# Altium integrated library Altera Cyclone IV GX update.IntLib: 117 symbols (part 1 of 38)
Pins are listed as number, name and electrical type; pins without a type are passive.

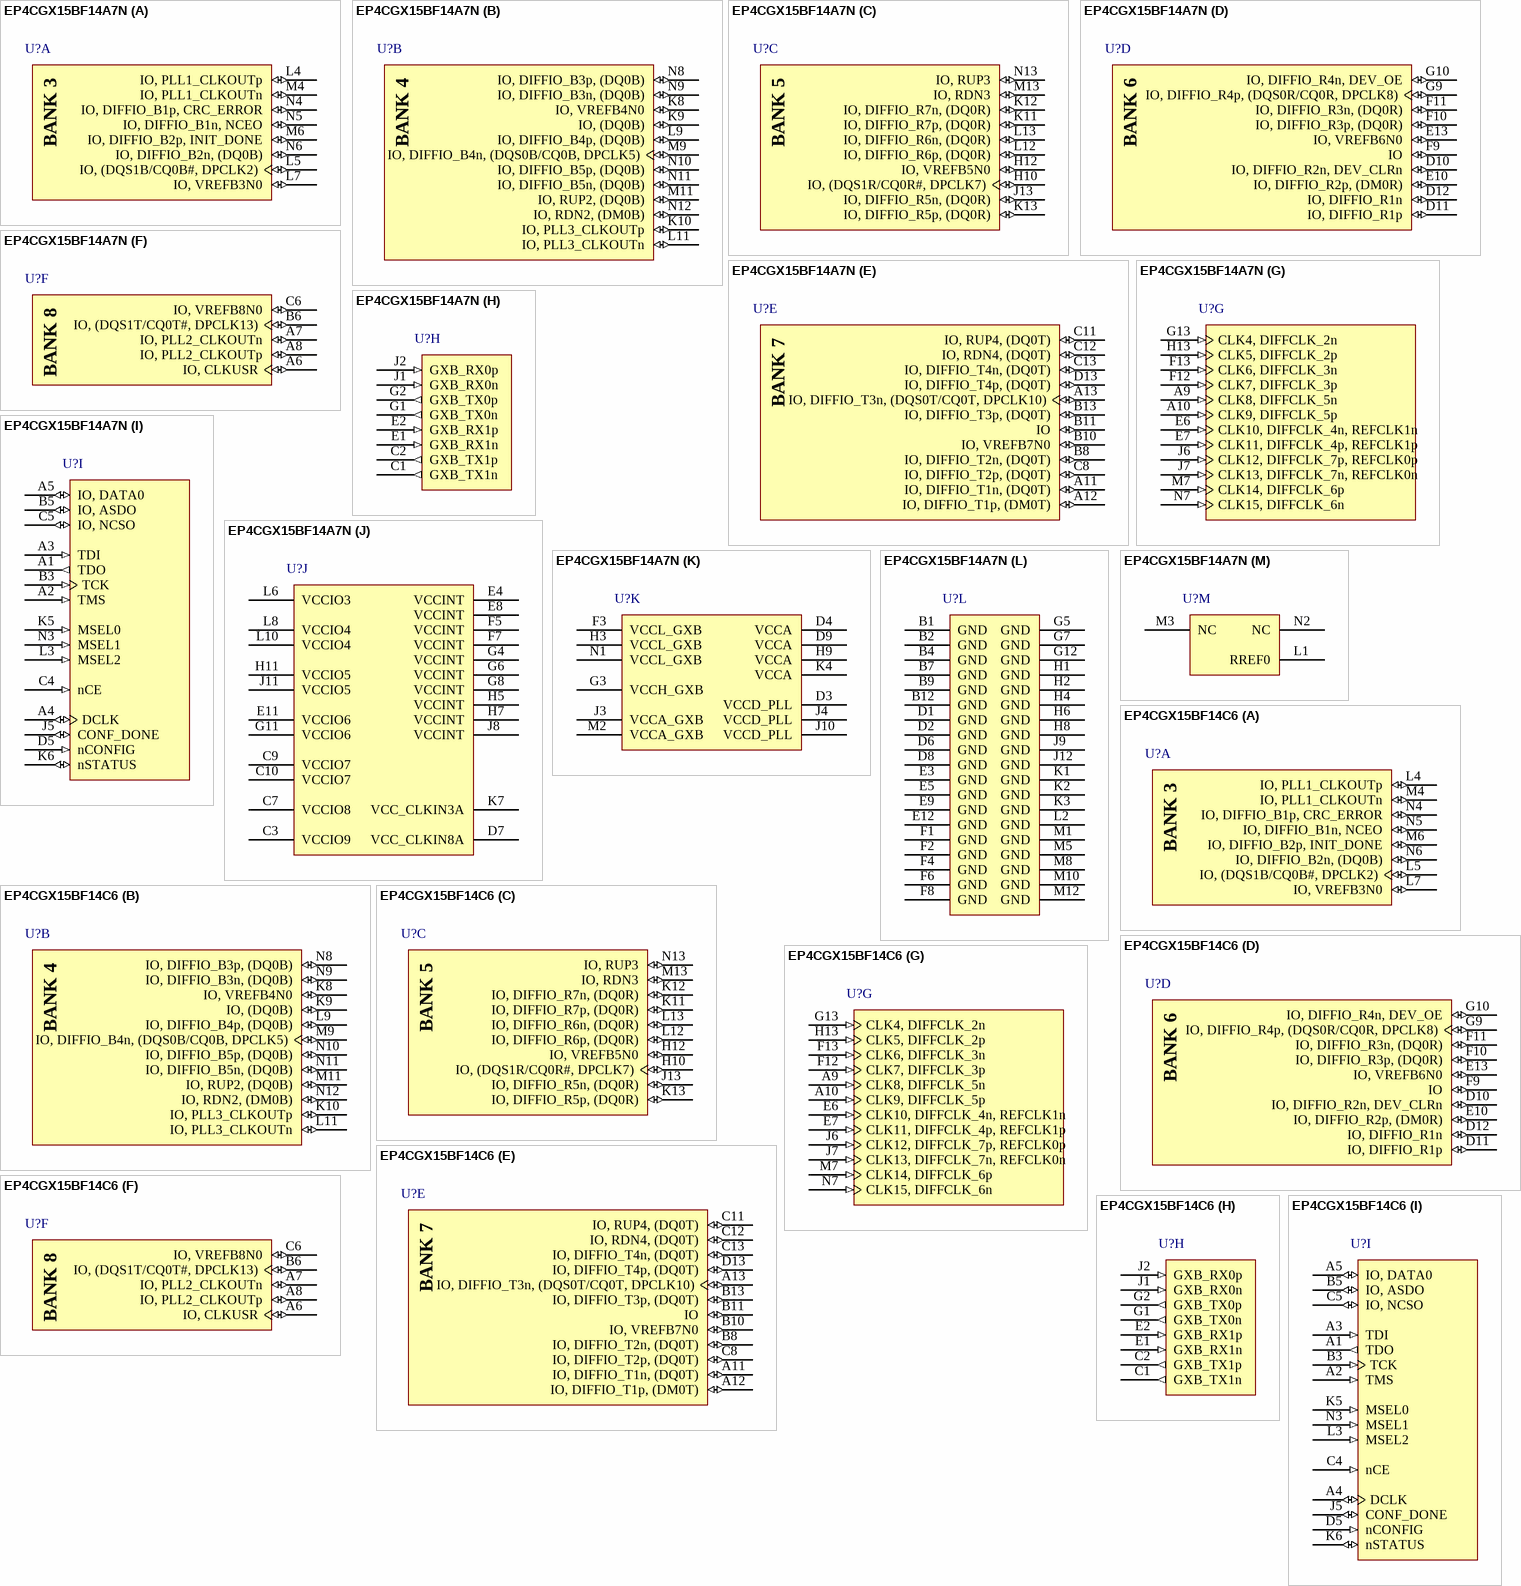
[diagram p0: symbols EP4CGX15BF14A7N to EP4CGX15BF14C6]

## EP4CGX15BF14A7N
designator U?
Cyclone IV Family FPGA, 1.2 V Core, 72 I/O Pins, 3 PLLs, 2 High-Speed Transceivers, 169-Pin FBGA, Speed Grade 7, Automotive Grade, Pb-Free; Manufacturer: Altera; Device Group: EP4CGX15; GPIO: 72; Logic Elements (LE) (K): 14.4; NexusDeviceID: EP4CGX15BF14A7N; Pb-Free: TRUE; Speed Grade: 7; DatasheetVersion: Rev. 1.8; PackageVersion: Rev. 1.0, 06/2011; PackageReference: FBGA169_A-155; PackageDescription: 169-Pin FineLine Ball-Grid Array (FBGA), Body 14 x 14 mm, Pitch 1 mm; Supplier 1: Digi-Key; Supplier Part Number 1: EP4CGX15BF14A7N-ND; Supplier 2: Mouser; Supplier Part Number 2: 989-EP4CGX15BF14A7N; RoHS: RoHS Compliant; Subcategory: Cyclone IV GX; Voltage Supply: 1.2 V Core; Mounting Technology: Surface Mount; Code_JEDEC: MO-192; PartNumber: EP4CGX15BF14A7N; ComponentLink1Description: Manufacturer URL; ComponentLink1URL: http://www.altera.com/; ComponentLink2Description: Datasheet; ComponentLink2URL: http://www.altera.com/literature/hb/cyclone-iv/cyiv-53001.pdf; ComponentLink3Description: Package Specification; ComponentLink3URL: http://www.altera.com/devicepackaging/04R00225-02.pdf; ComponentLink4Description: Device Handbook URL; ComponentLink4URL: http://www.altera.com/literature/hb/cyclone-iv/cyclone4-handbook.pdf; ComponentLink5Description: Device Overview URL; ComponentLink5URL: http://www.altera.com/literature/hb/cyclone-iv/cyiv-51001.pdf; ComponentLink6Description: Device Pin-Out URL; ComponentLink6URL: http://www.altera.com/literature/dp/cyclone-iv/EP4CGX15.xls; ComponentLink7Description: Product URL; ComponentLink7URL: http://www.buyaltera.com/scripts/partsearch.dll?Detail&name=EP4CGX15BF14A7N-ND
footprint ALTR-FBGA169_A-155 (BGA, 169-Balls, Body 14x14mm, Pitch 1mm)
part A pins: L4 IO, PLL1_CLKOUTp (io), L5 IO, (DQS1B/CQ0B#, DPCLK2) (io), L7 IO, VREFB3N0 (io), M4 IO, PLL1_CLKOUTn (io), M6 IO, DIFFIO_B2p, INIT_DONE (io), N4 IO, DIFFIO_B1p, CRC_ERROR (io), N5 IO, DIFFIO_B1n, NCEO (io), N6 IO, DIFFIO_B2n, (DQ0B) (io)
part B pins: K8 IO, VREFB4N0 (io), K9 IO, (DQ0B) (io), K10 IO, PLL3_CLKOUTp (io), L9 IO, DIFFIO_B4p, (DQ0B) (io), L11 IO, PLL3_CLKOUTn (io), M9 IO, DIFFIO_B4n, (DQS0B/CQ0B, DPCLK5) (io), M11 IO, RUP2, (DQ0B) (io), N8 IO, DIFFIO_B3p, (DQ0B) (io), N9 IO, DIFFIO_B3n, (DQ0B) (io), N10 IO, DIFFIO_B5p, (DQ0B) (io), N11 IO, DIFFIO_B5n, (DQ0B) (io), N12 IO, RDN2, (DM0B) (io)
part C pins: H10 IO, (DQS1R/CQ0R#, DPCLK7) (io), H12 IO, VREFB5N0 (io), J13 IO, DIFFIO_R5n, (DQ0R) (io), K11 IO, DIFFIO_R7p, (DQ0R) (io), K12 IO, DIFFIO_R7n, (DQ0R) (io), K13 IO, DIFFIO_R5p, (DQ0R) (io), L12 IO, DIFFIO_R6p, (DQ0R) (io), L13 IO, DIFFIO_R6n, (DQ0R) (io), M13 IO, RDN3 (io), N13 IO, RUP3 (io)
part D pins: D10 IO, DIFFIO_R2n, DEV_CLRn (io), D11 IO, DIFFIO_R1p (io), D12 IO, DIFFIO_R1n (io), E10 IO, DIFFIO_R2p, (DM0R) (io), E13 IO, VREFB6N0 (io), F9 IO (io), F10 IO, DIFFIO_R3p, (DQ0R) (io), F11 IO, DIFFIO_R3n, (DQ0R) (io), G9 IO, DIFFIO_R4p, (DQS0R/CQ0R, DPCLK8) (io), G10 IO, DIFFIO_R4n, DEV_OE (io)
part E pins: A11 IO, DIFFIO_T1n, (DQ0T) (io), A12 IO, DIFFIO_T1p, (DM0T) (io), A13 IO, DIFFIO_T3n, (DQS0T/CQ0T, DPCLK10) (io), B8 IO, DIFFIO_T2n, (DQ0T) (io), B10 IO, VREFB7N0 (io), B11 IO (io), B13 IO, DIFFIO_T3p, (DQ0T) (io), C8 IO, DIFFIO_T2p, (DQ0T) (io), C11 IO, RUP4, (DQ0T) (io), C12 IO, RDN4, (DQ0T) (io), C13 IO, DIFFIO_T4n, (DQ0T) (io), D13 IO, DIFFIO_T4p, (DQ0T) (io)
part F pins: A6 IO, CLKUSR (io), A7 IO, PLL2_CLKOUTn (io), A8 IO, PLL2_CLKOUTp (io), B6 IO, (DQS1T/CQ0T#, DPCLK13) (io), C6 IO, VREFB8N0 (io)
part G pins: A9 CLK8, DIFFCLK_5n (in), A10 CLK9, DIFFCLK_5p (in), E6 CLK10, DIFFCLK_4n, REFCLK1n (in), E7 CLK11, DIFFCLK_4p, REFCLK1p (in), F12 CLK7, DIFFCLK_3p (in), F13 CLK6, DIFFCLK_3n (in), G13 CLK4, DIFFCLK_2n (in), H13 CLK5, DIFFCLK_2p (in), J6 CLK12, DIFFCLK_7p, REFCLK0p (in), J7 CLK13, DIFFCLK_7n, REFCLK0n (in), M7 CLK14, DIFFCLK_6p (in), N7 CLK15, DIFFCLK_6n (in)
part H pins: C1 GXB_TX1n (out), C2 GXB_TX1p (out), E1 GXB_RX1n (in), E2 GXB_RX1p (in), G1 GXB_TX0n (out), G2 GXB_TX0p (out), J1 GXB_RX0n (in), J2 GXB_RX0p (in)
part I pins: A1 TDO (out), A2 TMS (in), A3 TDI (in), A4 DCLK (io), A5 IO, DATA0 (io), B3 TCK (in), B5 IO, ASDO (io), C4 nCE (in), C5 IO, NCSO (io), D5 nCONFIG (in), J5 CONF_DONE (io), K5 MSEL0 (in), K6 nSTATUS (io), L3 MSEL2 (in), N3 MSEL1 (in)
part J pins: C3 VCCIO9 (power), C7 VCCIO8 (power), C9 VCCIO7 (power), C10 VCCIO7 (power), D7 VCC_CLKIN8A (power), E4 VCCINT (power), E8 VCCINT (power), E11 VCCIO6 (power), F5 VCCINT (power), F7 VCCINT (power), G4 VCCINT (power), G6 VCCINT (power), G8 VCCINT (power), G11 VCCIO6 (power), H5 VCCINT (power), H7 VCCINT (power), H11 VCCIO5 (power), J8 VCCINT (power), J11 VCCIO5 (power), K7 VCC_CLKIN3A (power), L6 VCCIO3 (power), L8 VCCIO4 (power), L10 VCCIO4 (power)
part K pins: D3 VCCD_PLL (power), D4 VCCA (power), D9 VCCA (power), F3 VCCL_GXB (power), G3 VCCH_GXB (power), H3 VCCL_GXB (power), H9 VCCA (power), J3 VCCA_GXB (power), J4 VCCD_PLL (power), J10 VCCD_PLL (power), K4 VCCA (power), M2 VCCA_GXB (power), N1 VCCL_GXB (power)
part L pins: B1 GND (power), B2 GND (power), B4 GND (power), B7 GND (power), B9 GND (power), B12 GND (power), D1 GND (power), D2 GND (power), D6 GND (power), D8 GND (power), E3 GND (power), E5 GND (power), E9 GND (power), E12 GND (power), F1 GND (power), F2 GND (power), F4 GND (power), F6 GND (power), F8 GND (power), G5 GND (power), G7 GND (power), G12 GND (power), H1 GND (power), H2 GND (power), H4 GND (power), H6 GND (power), H8 GND (power), J9 GND (power), J12 GND (power), K1 GND (power), K2 GND (power), K3 GND (power), L2 GND (power), M1 GND (power), M5 GND (power), M8 GND (power), M10 GND (power), M12 GND (power)
part M pins: L1 RREF0, M3 NC, N2 NC
part A text: BANK 3
part B text: BANK 4
part C text: BANK 5
part D text: BANK 6
part E text: BANK 7
part F text: BANK 8

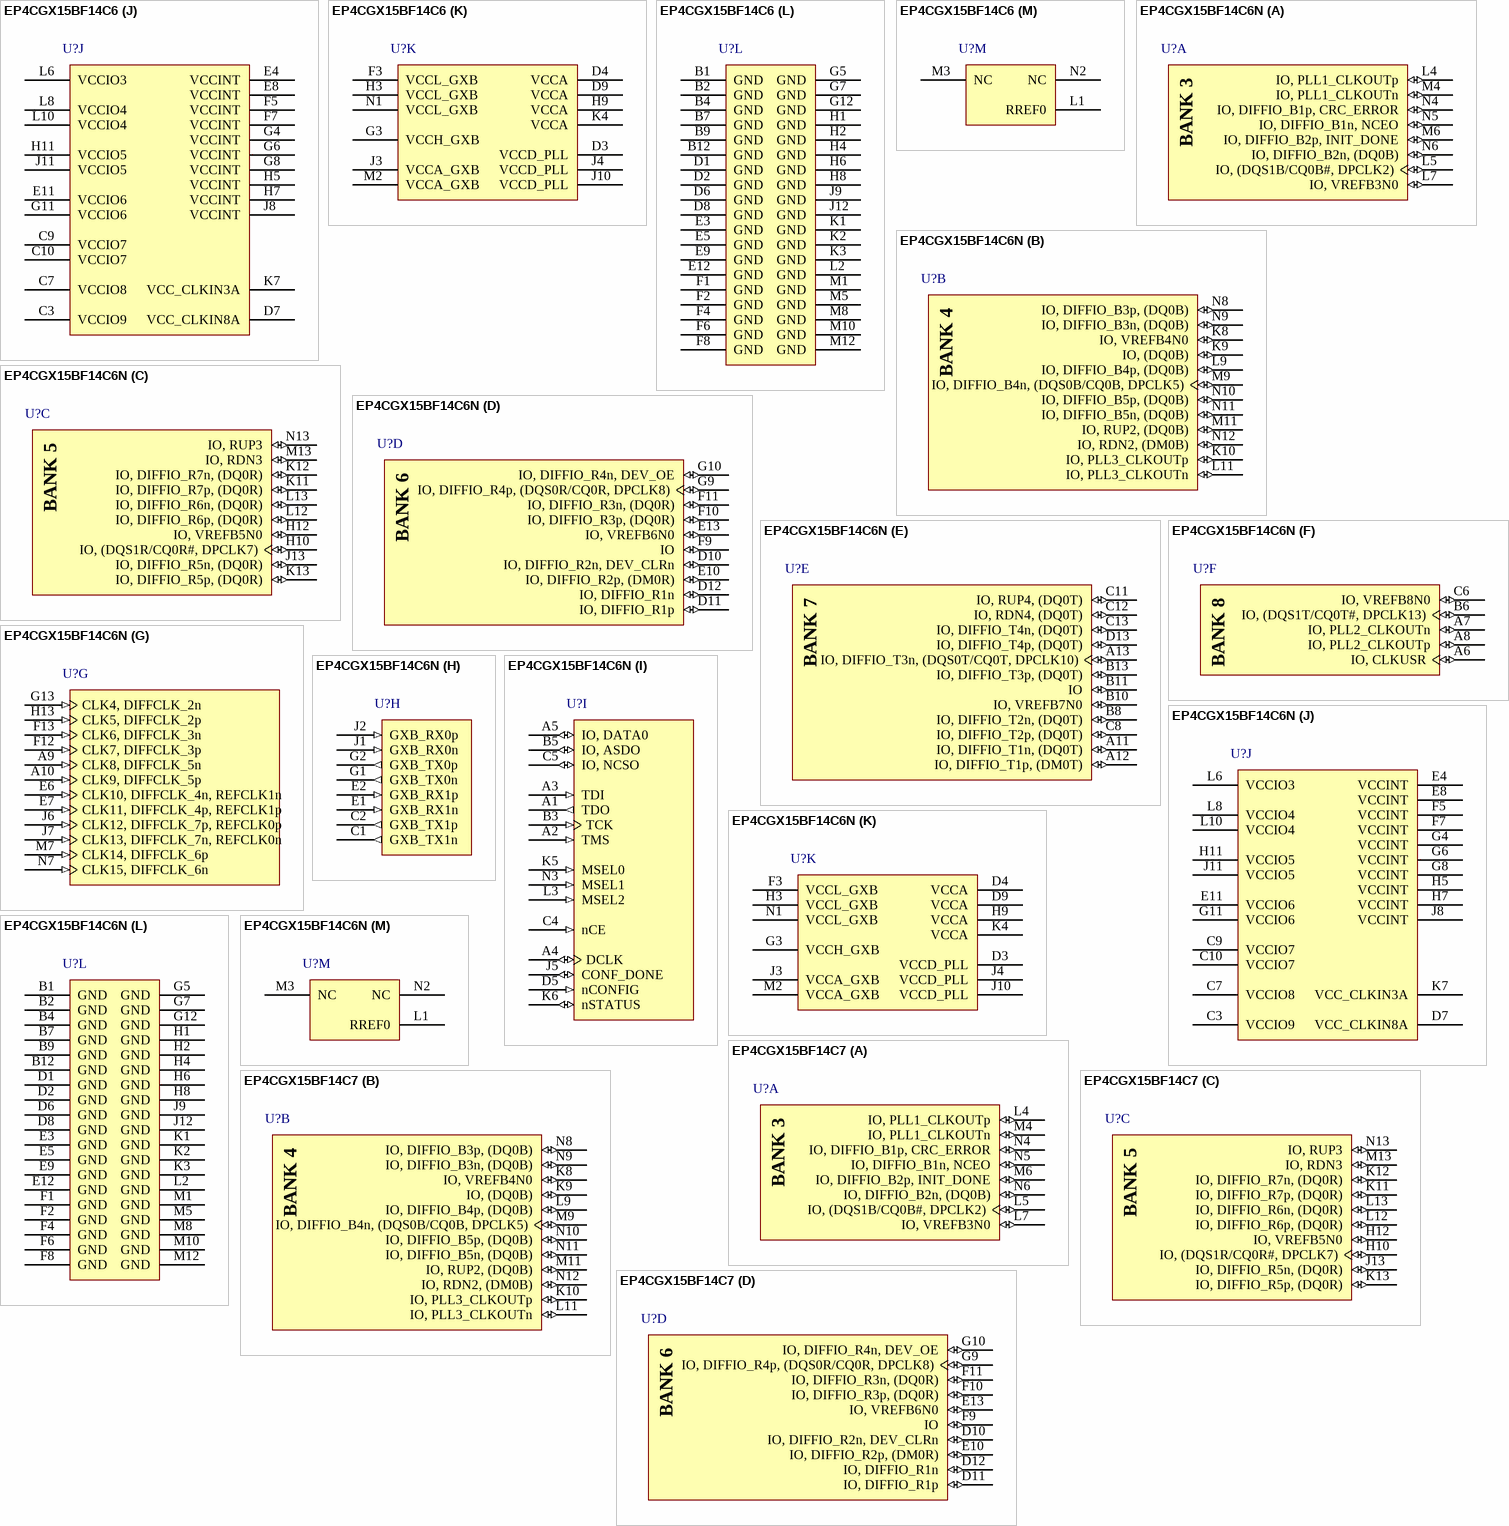
[diagram p1: symbols EP4CGX15BF14C6 to EP4CGX15BF14C7]

## EP4CGX15BF14C6
designator U?
Cyclone IV Family FPGA, 1.2 V Core, 72 I/O Pins, 3 PLLs, 2 High-Speed Transceivers, 169-Pin FBGA, Speed Grade 6, Commercial Grade; Manufacturer: Altera; Device Group: EP4CGX15; GPIO: 72; Logic Elements (LE) (K): 14.4; NexusDeviceID: EP4CGX15BF14C6; Speed Grade: 6; DatasheetVersion: Rev. 1.8; PackageVersion: Rev. 1.0, 06/2011; PackageReference: FBGA169_A-155; PackageDescription: 169-Pin FineLine Ball-Grid Array (FBGA), Body 14 x 14 mm, Pitch 1 mm; Supplier 1: Digi-Key; Supplier Part Number 1: EP4CGX15BF14C6-ND; Supplier 2: Mouser; Supplier Part Number 2: 989-EP4CGX15BF14C6; Subcategory: Cyclone IV GX; Voltage Supply: 1.2 V Core; Mounting Technology: Surface Mount; Code_JEDEC: MO-192; PartNumber: EP4CGX15BF14C6; ComponentLink1Description: Manufacturer URL; ComponentLink1URL: http://www.altera.com/; ComponentLink2Description: Datasheet; ComponentLink2URL: http://www.altera.com/literature/hb/cyclone-iv/cyiv-53001.pdf; ComponentLink3Description: Package Specification; ComponentLink3URL: http://www.altera.com/devicepackaging/04R00225-02.pdf; ComponentLink4Description: Device Handbook URL; ComponentLink4URL: http://www.altera.com/literature/hb/cyclone-iv/cyclone4-handbook.pdf; ComponentLink5Description: Device Overview URL; ComponentLink5URL: http://www.altera.com/literature/hb/cyclone-iv/cyiv-51001.pdf; ComponentLink6Description: Device Pin-Out URL; ComponentLink6URL: http://www.altera.com/literature/dp/cyclone-iv/EP4CGX15.xls; ComponentLink7Description: Product URL; ComponentLink7URL: http://www.buyaltera.com/scripts/partsearch.dll?Detail&name=EP4CGX15BF14C6N-ND
footprint ALTR-FBGA169_A-155 (BGA, 169-Balls, Body 14x14mm, Pitch 1mm)
part A pins: L4 IO, PLL1_CLKOUTp (io), L5 IO, (DQS1B/CQ0B#, DPCLK2) (io), L7 IO, VREFB3N0 (io), M4 IO, PLL1_CLKOUTn (io), M6 IO, DIFFIO_B2p, INIT_DONE (io), N4 IO, DIFFIO_B1p, CRC_ERROR (io), N5 IO, DIFFIO_B1n, NCEO (io), N6 IO, DIFFIO_B2n, (DQ0B) (io)
part B pins: K8 IO, VREFB4N0 (io), K9 IO, (DQ0B) (io), K10 IO, PLL3_CLKOUTp (io), L9 IO, DIFFIO_B4p, (DQ0B) (io), L11 IO, PLL3_CLKOUTn (io), M9 IO, DIFFIO_B4n, (DQS0B/CQ0B, DPCLK5) (io), M11 IO, RUP2, (DQ0B) (io), N8 IO, DIFFIO_B3p, (DQ0B) (io), N9 IO, DIFFIO_B3n, (DQ0B) (io), N10 IO, DIFFIO_B5p, (DQ0B) (io), N11 IO, DIFFIO_B5n, (DQ0B) (io), N12 IO, RDN2, (DM0B) (io)
part C pins: H10 IO, (DQS1R/CQ0R#, DPCLK7) (io), H12 IO, VREFB5N0 (io), J13 IO, DIFFIO_R5n, (DQ0R) (io), K11 IO, DIFFIO_R7p, (DQ0R) (io), K12 IO, DIFFIO_R7n, (DQ0R) (io), K13 IO, DIFFIO_R5p, (DQ0R) (io), L12 IO, DIFFIO_R6p, (DQ0R) (io), L13 IO, DIFFIO_R6n, (DQ0R) (io), M13 IO, RDN3 (io), N13 IO, RUP3 (io)
part D pins: D10 IO, DIFFIO_R2n, DEV_CLRn (io), D11 IO, DIFFIO_R1p (io), D12 IO, DIFFIO_R1n (io), E10 IO, DIFFIO_R2p, (DM0R) (io), E13 IO, VREFB6N0 (io), F9 IO (io), F10 IO, DIFFIO_R3p, (DQ0R) (io), F11 IO, DIFFIO_R3n, (DQ0R) (io), G9 IO, DIFFIO_R4p, (DQS0R/CQ0R, DPCLK8) (io), G10 IO, DIFFIO_R4n, DEV_OE (io)
part E pins: A11 IO, DIFFIO_T1n, (DQ0T) (io), A12 IO, DIFFIO_T1p, (DM0T) (io), A13 IO, DIFFIO_T3n, (DQS0T/CQ0T, DPCLK10) (io), B8 IO, DIFFIO_T2n, (DQ0T) (io), B10 IO, VREFB7N0 (io), B11 IO (io), B13 IO, DIFFIO_T3p, (DQ0T) (io), C8 IO, DIFFIO_T2p, (DQ0T) (io), C11 IO, RUP4, (DQ0T) (io), C12 IO, RDN4, (DQ0T) (io), C13 IO, DIFFIO_T4n, (DQ0T) (io), D13 IO, DIFFIO_T4p, (DQ0T) (io)
part F pins: A6 IO, CLKUSR (io), A7 IO, PLL2_CLKOUTn (io), A8 IO, PLL2_CLKOUTp (io), B6 IO, (DQS1T/CQ0T#, DPCLK13) (io), C6 IO, VREFB8N0 (io)
part G pins: A9 CLK8, DIFFCLK_5n (in), A10 CLK9, DIFFCLK_5p (in), E6 CLK10, DIFFCLK_4n, REFCLK1n (in), E7 CLK11, DIFFCLK_4p, REFCLK1p (in), F12 CLK7, DIFFCLK_3p (in), F13 CLK6, DIFFCLK_3n (in), G13 CLK4, DIFFCLK_2n (in), H13 CLK5, DIFFCLK_2p (in), J6 CLK12, DIFFCLK_7p, REFCLK0p (in), J7 CLK13, DIFFCLK_7n, REFCLK0n (in), M7 CLK14, DIFFCLK_6p (in), N7 CLK15, DIFFCLK_6n (in)
part H pins: C1 GXB_TX1n (out), C2 GXB_TX1p (out), E1 GXB_RX1n (in), E2 GXB_RX1p (in), G1 GXB_TX0n (out), G2 GXB_TX0p (out), J1 GXB_RX0n (in), J2 GXB_RX0p (in)
part I pins: A1 TDO (out), A2 TMS (in), A3 TDI (in), A4 DCLK (io), A5 IO, DATA0 (io), B3 TCK (in), B5 IO, ASDO (io), C4 nCE (in), C5 IO, NCSO (io), D5 nCONFIG (in), J5 CONF_DONE (io), K5 MSEL0 (in), K6 nSTATUS (io), L3 MSEL2 (in), N3 MSEL1 (in)
part J pins: C3 VCCIO9 (power), C7 VCCIO8 (power), C9 VCCIO7 (power), C10 VCCIO7 (power), D7 VCC_CLKIN8A (power), E4 VCCINT (power), E8 VCCINT (power), E11 VCCIO6 (power), F5 VCCINT (power), F7 VCCINT (power), G4 VCCINT (power), G6 VCCINT (power), G8 VCCINT (power), G11 VCCIO6 (power), H5 VCCINT (power), H7 VCCINT (power), H11 VCCIO5 (power), J8 VCCINT (power), J11 VCCIO5 (power), K7 VCC_CLKIN3A (power), L6 VCCIO3 (power), L8 VCCIO4 (power), L10 VCCIO4 (power)
part K pins: D3 VCCD_PLL (power), D4 VCCA (power), D9 VCCA (power), F3 VCCL_GXB (power), G3 VCCH_GXB (power), H3 VCCL_GXB (power), H9 VCCA (power), J3 VCCA_GXB (power), J4 VCCD_PLL (power), J10 VCCD_PLL (power), K4 VCCA (power), M2 VCCA_GXB (power), N1 VCCL_GXB (power)
part L pins: B1 GND (power), B2 GND (power), B4 GND (power), B7 GND (power), B9 GND (power), B12 GND (power), D1 GND (power), D2 GND (power), D6 GND (power), D8 GND (power), E3 GND (power), E5 GND (power), E9 GND (power), E12 GND (power), F1 GND (power), F2 GND (power), F4 GND (power), F6 GND (power), F8 GND (power), G5 GND (power), G7 GND (power), G12 GND (power), H1 GND (power), H2 GND (power), H4 GND (power), H6 GND (power), H8 GND (power), J9 GND (power), J12 GND (power), K1 GND (power), K2 GND (power), K3 GND (power), L2 GND (power), M1 GND (power), M5 GND (power), M8 GND (power), M10 GND (power), M12 GND (power)
part M pins: L1 RREF0, M3 NC, N2 NC
part A text: BANK 3
part B text: BANK 4
part C text: BANK 5
part D text: BANK 6
part E text: BANK 7
part F text: BANK 8

## EP4CGX15BF14C6N
designator U?
Cyclone IV Family FPGA, 1.2 V Core, 72 I/O Pins, 3 PLLs, 2 High-Speed Transceivers, 169-Pin FBGA, Speed Grade 6, Commercial Grade, Pb-Free; Manufacturer: Altera; Device Group: EP4CGX15; GPIO: 72; Logic Elements (LE) (K): 14.4; NexusDeviceID: EP4CGX15BF14C6N; Pb-Free: TRUE; Speed Grade: 6; DatasheetVersion: Rev. 1.8; PackageVersion: Rev. 1.0, 06/2011; PackageReference: FBGA169_A-155; PackageDescription: 169-Pin FineLine Ball-Grid Array (FBGA), Body 14 x 14 mm, Pitch 1 mm; Supplier 1: Digi-Key; Supplier Part Number 1: EP4CGX15BF14C6N-ND; Supplier 2: Farnell; Supplier Part Number 2: 2100859; Supplier 3: Mouser; Supplier Part Number 3: 989-EP4CGX15BF14C6N; RoHS: RoHS Compliant; Subcategory: Cyclone IV GX; Voltage Supply: 1.2 V Core; Mounting Technology: Surface Mount; Code_JEDEC: MO-192; PartNumber: EP4CGX15BF14C6N; ComponentLink1Description: Manufacturer URL; ComponentLink1URL: http://www.altera.com/; ComponentLink2Description: Datasheet; ComponentLink2URL: http://www.altera.com/literature/hb/cyclone-iv/cyiv-53001.pdf; ComponentLink3Description: Package Specification; ComponentLink3URL: http://www.altera.com/devicepackaging/04R00225-02.pdf; ComponentLink4Description: Device Handbook URL; ComponentLink4URL: http://www.altera.com/literature/hb/cyclone-iv/cyclone4-handbook.pdf; ComponentLink5Description: Device Overview URL; ComponentLink5URL: http://www.altera.com/literature/hb/cyclone-iv/cyiv-51001.pdf; ComponentLink6Description: Device Pin-Out URL; ComponentLink6URL: http://www.altera.com/literature/dp/cyclone-iv/EP4CGX15.xls; ComponentLink7Description: Product URL; ComponentLink7URL: http://www.buyaltera.com/scripts/partsearch.dll?Detail&name=EP4CGX15BF14C6N-ND
footprint ALTR-FBGA169_A-155 (BGA, 169-Balls, Body 14x14mm, Pitch 1mm)
part A pins: L4 IO, PLL1_CLKOUTp (io), L5 IO, (DQS1B/CQ0B#, DPCLK2) (io), L7 IO, VREFB3N0 (io), M4 IO, PLL1_CLKOUTn (io), M6 IO, DIFFIO_B2p, INIT_DONE (io), N4 IO, DIFFIO_B1p, CRC_ERROR (io), N5 IO, DIFFIO_B1n, NCEO (io), N6 IO, DIFFIO_B2n, (DQ0B) (io)
part B pins: K8 IO, VREFB4N0 (io), K9 IO, (DQ0B) (io), K10 IO, PLL3_CLKOUTp (io), L9 IO, DIFFIO_B4p, (DQ0B) (io), L11 IO, PLL3_CLKOUTn (io), M9 IO, DIFFIO_B4n, (DQS0B/CQ0B, DPCLK5) (io), M11 IO, RUP2, (DQ0B) (io), N8 IO, DIFFIO_B3p, (DQ0B) (io), N9 IO, DIFFIO_B3n, (DQ0B) (io), N10 IO, DIFFIO_B5p, (DQ0B) (io), N11 IO, DIFFIO_B5n, (DQ0B) (io), N12 IO, RDN2, (DM0B) (io)
part C pins: H10 IO, (DQS1R/CQ0R#, DPCLK7) (io), H12 IO, VREFB5N0 (io), J13 IO, DIFFIO_R5n, (DQ0R) (io), K11 IO, DIFFIO_R7p, (DQ0R) (io), K12 IO, DIFFIO_R7n, (DQ0R) (io), K13 IO, DIFFIO_R5p, (DQ0R) (io), L12 IO, DIFFIO_R6p, (DQ0R) (io), L13 IO, DIFFIO_R6n, (DQ0R) (io), M13 IO, RDN3 (io), N13 IO, RUP3 (io)
part D pins: D10 IO, DIFFIO_R2n, DEV_CLRn (io), D11 IO, DIFFIO_R1p (io), D12 IO, DIFFIO_R1n (io), E10 IO, DIFFIO_R2p, (DM0R) (io), E13 IO, VREFB6N0 (io), F9 IO (io), F10 IO, DIFFIO_R3p, (DQ0R) (io), F11 IO, DIFFIO_R3n, (DQ0R) (io), G9 IO, DIFFIO_R4p, (DQS0R/CQ0R, DPCLK8) (io), G10 IO, DIFFIO_R4n, DEV_OE (io)
part E pins: A11 IO, DIFFIO_T1n, (DQ0T) (io), A12 IO, DIFFIO_T1p, (DM0T) (io), A13 IO, DIFFIO_T3n, (DQS0T/CQ0T, DPCLK10) (io), B8 IO, DIFFIO_T2n, (DQ0T) (io), B10 IO, VREFB7N0 (io), B11 IO (io), B13 IO, DIFFIO_T3p, (DQ0T) (io), C8 IO, DIFFIO_T2p, (DQ0T) (io), C11 IO, RUP4, (DQ0T) (io), C12 IO, RDN4, (DQ0T) (io), C13 IO, DIFFIO_T4n, (DQ0T) (io), D13 IO, DIFFIO_T4p, (DQ0T) (io)
part F pins: A6 IO, CLKUSR (io), A7 IO, PLL2_CLKOUTn (io), A8 IO, PLL2_CLKOUTp (io), B6 IO, (DQS1T/CQ0T#, DPCLK13) (io), C6 IO, VREFB8N0 (io)
part G pins: A9 CLK8, DIFFCLK_5n (in), A10 CLK9, DIFFCLK_5p (in), E6 CLK10, DIFFCLK_4n, REFCLK1n (in), E7 CLK11, DIFFCLK_4p, REFCLK1p (in), F12 CLK7, DIFFCLK_3p (in), F13 CLK6, DIFFCLK_3n (in), G13 CLK4, DIFFCLK_2n (in), H13 CLK5, DIFFCLK_2p (in), J6 CLK12, DIFFCLK_7p, REFCLK0p (in), J7 CLK13, DIFFCLK_7n, REFCLK0n (in), M7 CLK14, DIFFCLK_6p (in), N7 CLK15, DIFFCLK_6n (in)
part H pins: C1 GXB_TX1n (out), C2 GXB_TX1p (out), E1 GXB_RX1n (in), E2 GXB_RX1p (in), G1 GXB_TX0n (out), G2 GXB_TX0p (out), J1 GXB_RX0n (in), J2 GXB_RX0p (in)
part I pins: A1 TDO (out), A2 TMS (in), A3 TDI (in), A4 DCLK (io), A5 IO, DATA0 (io), B3 TCK (in), B5 IO, ASDO (io), C4 nCE (in), C5 IO, NCSO (io), D5 nCONFIG (in), J5 CONF_DONE (io), K5 MSEL0 (in), K6 nSTATUS (io), L3 MSEL2 (in), N3 MSEL1 (in)
part J pins: C3 VCCIO9 (power), C7 VCCIO8 (power), C9 VCCIO7 (power), C10 VCCIO7 (power), D7 VCC_CLKIN8A (power), E4 VCCINT (power), E8 VCCINT (power), E11 VCCIO6 (power), F5 VCCINT (power), F7 VCCINT (power), G4 VCCINT (power), G6 VCCINT (power), G8 VCCINT (power), G11 VCCIO6 (power), H5 VCCINT (power), H7 VCCINT (power), H11 VCCIO5 (power), J8 VCCINT (power), J11 VCCIO5 (power), K7 VCC_CLKIN3A (power), L6 VCCIO3 (power), L8 VCCIO4 (power), L10 VCCIO4 (power)
part K pins: D3 VCCD_PLL (power), D4 VCCA (power), D9 VCCA (power), F3 VCCL_GXB (power), G3 VCCH_GXB (power), H3 VCCL_GXB (power), H9 VCCA (power), J3 VCCA_GXB (power), J4 VCCD_PLL (power), J10 VCCD_PLL (power), K4 VCCA (power), M2 VCCA_GXB (power), N1 VCCL_GXB (power)
part L pins: B1 GND (power), B2 GND (power), B4 GND (power), B7 GND (power), B9 GND (power), B12 GND (power), D1 GND (power), D2 GND (power), D6 GND (power), D8 GND (power), E3 GND (power), E5 GND (power), E9 GND (power), E12 GND (power), F1 GND (power), F2 GND (power), F4 GND (power), F6 GND (power), F8 GND (power), G5 GND (power), G7 GND (power), G12 GND (power), H1 GND (power), H2 GND (power), H4 GND (power), H6 GND (power), H8 GND (power), J9 GND (power), J12 GND (power), K1 GND (power), K2 GND (power), K3 GND (power), L2 GND (power), M1 GND (power), M5 GND (power), M8 GND (power), M10 GND (power), M12 GND (power)
part M pins: L1 RREF0, M3 NC, N2 NC
part A text: BANK 3
part B text: BANK 4
part C text: BANK 5
part D text: BANK 6
part E text: BANK 7
part F text: BANK 8

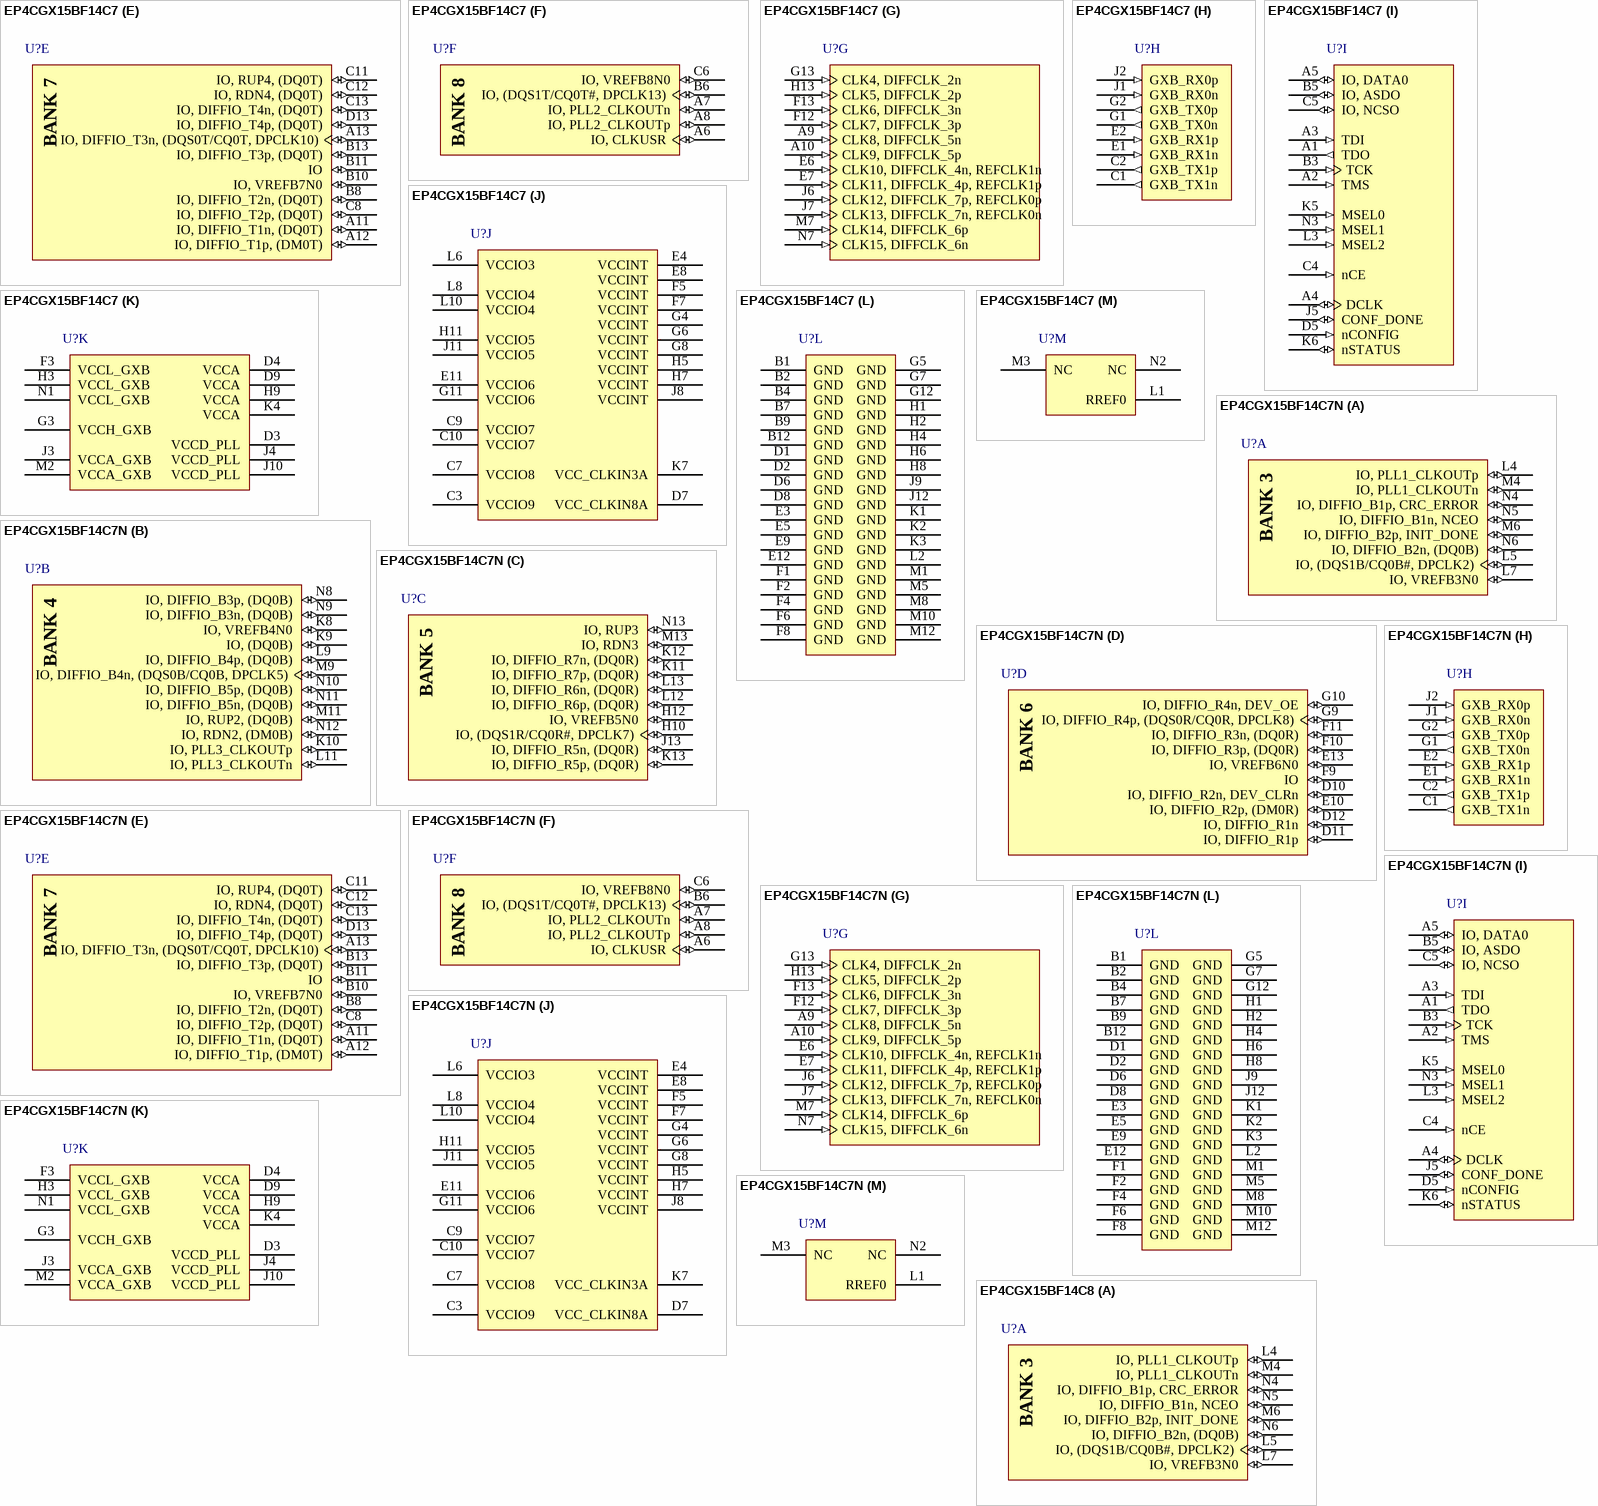
[diagram p2: symbols EP4CGX15BF14C7 to EP4CGX15BF14C8]

## EP4CGX15BF14C7
designator U?
Cyclone IV Family FPGA, 1.2 V Core, 72 I/O Pins, 3 PLLs, 2 High-Speed Transceivers, 169-Pin FBGA, Speed Grade 7, Commercial Grade; Manufacturer: Altera; Device Group: EP4CGX15; GPIO: 72; Logic Elements (LE) (K): 14.4; NexusDeviceID: EP4CGX15BF14C7; Speed Grade: 7; DatasheetVersion: Rev. 1.8; PackageVersion: Rev. 1.0, 06/2011; PackageReference: FBGA169_A-155; PackageDescription: 169-Pin FineLine Ball-Grid Array (FBGA), Body 14 x 14 mm, Pitch 1 mm; Supplier 1: Digi-Key; Supplier Part Number 1: EP4CGX15BF14C7-ND; Supplier 2: Mouser; Supplier Part Number 2: 989-EP4CGX15BF14C7; Subcategory: Cyclone IV GX; Voltage Supply: 1.2 V Core; Mounting Technology: Surface Mount; Code_JEDEC: MO-192; PartNumber: EP4CGX15BF14C7; ComponentLink1Description: Manufacturer URL; ComponentLink1URL: http://www.altera.com/; ComponentLink2Description: Datasheet; ComponentLink2URL: http://www.altera.com/literature/hb/cyclone-iv/cyiv-53001.pdf; ComponentLink3Description: Package Specification; ComponentLink3URL: http://www.altera.com/devicepackaging/04R00225-02.pdf; ComponentLink4Description: Device Handbook URL; ComponentLink4URL: http://www.altera.com/literature/hb/cyclone-iv/cyclone4-handbook.pdf; ComponentLink5Description: Device Overview URL; ComponentLink5URL: http://www.altera.com/literature/hb/cyclone-iv/cyiv-51001.pdf; ComponentLink6Description: Device Pin-Out URL; ComponentLink6URL: http://www.altera.com/literature/dp/cyclone-iv/EP4CGX15.xls; ComponentLink7Description: Product URL; ComponentLink7URL: http://www.buyaltera.com/scripts/partsearch.dll?Detail&name=EP4CGX15BF14C7N-ND
footprint ALTR-FBGA169_A-155 (BGA, 169-Balls, Body 14x14mm, Pitch 1mm)
part A pins: L4 IO, PLL1_CLKOUTp (io), L5 IO, (DQS1B/CQ0B#, DPCLK2) (io), L7 IO, VREFB3N0 (io), M4 IO, PLL1_CLKOUTn (io), M6 IO, DIFFIO_B2p, INIT_DONE (io), N4 IO, DIFFIO_B1p, CRC_ERROR (io), N5 IO, DIFFIO_B1n, NCEO (io), N6 IO, DIFFIO_B2n, (DQ0B) (io)
part B pins: K8 IO, VREFB4N0 (io), K9 IO, (DQ0B) (io), K10 IO, PLL3_CLKOUTp (io), L9 IO, DIFFIO_B4p, (DQ0B) (io), L11 IO, PLL3_CLKOUTn (io), M9 IO, DIFFIO_B4n, (DQS0B/CQ0B, DPCLK5) (io), M11 IO, RUP2, (DQ0B) (io), N8 IO, DIFFIO_B3p, (DQ0B) (io), N9 IO, DIFFIO_B3n, (DQ0B) (io), N10 IO, DIFFIO_B5p, (DQ0B) (io), N11 IO, DIFFIO_B5n, (DQ0B) (io), N12 IO, RDN2, (DM0B) (io)
part C pins: H10 IO, (DQS1R/CQ0R#, DPCLK7) (io), H12 IO, VREFB5N0 (io), J13 IO, DIFFIO_R5n, (DQ0R) (io), K11 IO, DIFFIO_R7p, (DQ0R) (io), K12 IO, DIFFIO_R7n, (DQ0R) (io), K13 IO, DIFFIO_R5p, (DQ0R) (io), L12 IO, DIFFIO_R6p, (DQ0R) (io), L13 IO, DIFFIO_R6n, (DQ0R) (io), M13 IO, RDN3 (io), N13 IO, RUP3 (io)
part D pins: D10 IO, DIFFIO_R2n, DEV_CLRn (io), D11 IO, DIFFIO_R1p (io), D12 IO, DIFFIO_R1n (io), E10 IO, DIFFIO_R2p, (DM0R) (io), E13 IO, VREFB6N0 (io), F9 IO (io), F10 IO, DIFFIO_R3p, (DQ0R) (io), F11 IO, DIFFIO_R3n, (DQ0R) (io), G9 IO, DIFFIO_R4p, (DQS0R/CQ0R, DPCLK8) (io), G10 IO, DIFFIO_R4n, DEV_OE (io)
part E pins: A11 IO, DIFFIO_T1n, (DQ0T) (io), A12 IO, DIFFIO_T1p, (DM0T) (io), A13 IO, DIFFIO_T3n, (DQS0T/CQ0T, DPCLK10) (io), B8 IO, DIFFIO_T2n, (DQ0T) (io), B10 IO, VREFB7N0 (io), B11 IO (io), B13 IO, DIFFIO_T3p, (DQ0T) (io), C8 IO, DIFFIO_T2p, (DQ0T) (io), C11 IO, RUP4, (DQ0T) (io), C12 IO, RDN4, (DQ0T) (io), C13 IO, DIFFIO_T4n, (DQ0T) (io), D13 IO, DIFFIO_T4p, (DQ0T) (io)
part F pins: A6 IO, CLKUSR (io), A7 IO, PLL2_CLKOUTn (io), A8 IO, PLL2_CLKOUTp (io), B6 IO, (DQS1T/CQ0T#, DPCLK13) (io), C6 IO, VREFB8N0 (io)
part G pins: A9 CLK8, DIFFCLK_5n (in), A10 CLK9, DIFFCLK_5p (in), E6 CLK10, DIFFCLK_4n, REFCLK1n (in), E7 CLK11, DIFFCLK_4p, REFCLK1p (in), F12 CLK7, DIFFCLK_3p (in), F13 CLK6, DIFFCLK_3n (in), G13 CLK4, DIFFCLK_2n (in), H13 CLK5, DIFFCLK_2p (in), J6 CLK12, DIFFCLK_7p, REFCLK0p (in), J7 CLK13, DIFFCLK_7n, REFCLK0n (in), M7 CLK14, DIFFCLK_6p (in), N7 CLK15, DIFFCLK_6n (in)
part H pins: C1 GXB_TX1n (out), C2 GXB_TX1p (out), E1 GXB_RX1n (in), E2 GXB_RX1p (in), G1 GXB_TX0n (out), G2 GXB_TX0p (out), J1 GXB_RX0n (in), J2 GXB_RX0p (in)
part I pins: A1 TDO (out), A2 TMS (in), A3 TDI (in), A4 DCLK (io), A5 IO, DATA0 (io), B3 TCK (in), B5 IO, ASDO (io), C4 nCE (in), C5 IO, NCSO (io), D5 nCONFIG (in), J5 CONF_DONE (io), K5 MSEL0 (in), K6 nSTATUS (io), L3 MSEL2 (in), N3 MSEL1 (in)
part J pins: C3 VCCIO9 (power), C7 VCCIO8 (power), C9 VCCIO7 (power), C10 VCCIO7 (power), D7 VCC_CLKIN8A (power), E4 VCCINT (power), E8 VCCINT (power), E11 VCCIO6 (power), F5 VCCINT (power), F7 VCCINT (power), G4 VCCINT (power), G6 VCCINT (power), G8 VCCINT (power), G11 VCCIO6 (power), H5 VCCINT (power), H7 VCCINT (power), H11 VCCIO5 (power), J8 VCCINT (power), J11 VCCIO5 (power), K7 VCC_CLKIN3A (power), L6 VCCIO3 (power), L8 VCCIO4 (power), L10 VCCIO4 (power)
part K pins: D3 VCCD_PLL (power), D4 VCCA (power), D9 VCCA (power), F3 VCCL_GXB (power), G3 VCCH_GXB (power), H3 VCCL_GXB (power), H9 VCCA (power), J3 VCCA_GXB (power), J4 VCCD_PLL (power), J10 VCCD_PLL (power), K4 VCCA (power), M2 VCCA_GXB (power), N1 VCCL_GXB (power)
part L pins: B1 GND (power), B2 GND (power), B4 GND (power), B7 GND (power), B9 GND (power), B12 GND (power), D1 GND (power), D2 GND (power), D6 GND (power), D8 GND (power), E3 GND (power), E5 GND (power), E9 GND (power), E12 GND (power), F1 GND (power), F2 GND (power), F4 GND (power), F6 GND (power), F8 GND (power), G5 GND (power), G7 GND (power), G12 GND (power), H1 GND (power), H2 GND (power), H4 GND (power), H6 GND (power), H8 GND (power), J9 GND (power), J12 GND (power), K1 GND (power), K2 GND (power), K3 GND (power), L2 GND (power), M1 GND (power), M5 GND (power), M8 GND (power), M10 GND (power), M12 GND (power)
part M pins: L1 RREF0, M3 NC, N2 NC
part A text: BANK 3
part B text: BANK 4
part C text: BANK 5
part D text: BANK 6
part E text: BANK 7
part F text: BANK 8

## EP4CGX15BF14C7N
designator U?
Cyclone IV Family FPGA, 1.2 V Core, 72 I/O Pins, 3 PLLs, 2 High-Speed Transceivers, 169-Pin FBGA, Speed Grade 7, Commercial Grade, Pb-Free; Manufacturer: Altera; Device Group: EP4CGX15; GPIO: 72; Logic Elements (LE) (K): 14.4; NexusDeviceID: EP4CGX15BF14C7N; Pb-Free: TRUE; Speed Grade: 7; DatasheetVersion: Rev. 1.8; PackageVersion: Rev. 1.0, 06/2011; PackageReference: FBGA169_A-155; PackageDescription: 169-Pin FineLine Ball-Grid Array (FBGA), Body 14 x 14 mm, Pitch 1 mm; Supplier 1: Digi-Key; Supplier Part Number 1: EP4CGX15BF14C7N-ND; Supplier 2: Mouser; Supplier Part Number 2: 989-EP4CGX15BF14C7N; RoHS: RoHS Compliant; Subcategory: Cyclone IV GX; Voltage Supply: 1.2 V Core; Mounting Technology: Surface Mount; Code_JEDEC: MO-192; PartNumber: EP4CGX15BF14C7N; ComponentLink1Description: Manufacturer URL; ComponentLink1URL: http://www.altera.com/; ComponentLink2Description: Datasheet; ComponentLink2URL: http://www.altera.com/literature/hb/cyclone-iv/cyiv-53001.pdf; ComponentLink3Description: Package Specification; ComponentLink3URL: http://www.altera.com/devicepackaging/04R00225-02.pdf; ComponentLink4Description: Device Handbook URL; ComponentLink4URL: http://www.altera.com/literature/hb/cyclone-iv/cyclone4-handbook.pdf; ComponentLink5Description: Device Overview URL; ComponentLink5URL: http://www.altera.com/literature/hb/cyclone-iv/cyiv-51001.pdf; ComponentLink6Description: Device Pin-Out URL; ComponentLink6URL: http://www.altera.com/literature/dp/cyclone-iv/EP4CGX15.xls; ComponentLink7Description: Product URL; ComponentLink7URL: http://www.buyaltera.com/scripts/partsearch.dll?Detail&name=EP4CGX15BF14C7N-ND
footprint ALTR-FBGA169_A-155 (BGA, 169-Balls, Body 14x14mm, Pitch 1mm)
part A pins: L4 IO, PLL1_CLKOUTp (io), L5 IO, (DQS1B/CQ0B#, DPCLK2) (io), L7 IO, VREFB3N0 (io), M4 IO, PLL1_CLKOUTn (io), M6 IO, DIFFIO_B2p, INIT_DONE (io), N4 IO, DIFFIO_B1p, CRC_ERROR (io), N5 IO, DIFFIO_B1n, NCEO (io), N6 IO, DIFFIO_B2n, (DQ0B) (io)
part B pins: K8 IO, VREFB4N0 (io), K9 IO, (DQ0B) (io), K10 IO, PLL3_CLKOUTp (io), L9 IO, DIFFIO_B4p, (DQ0B) (io), L11 IO, PLL3_CLKOUTn (io), M9 IO, DIFFIO_B4n, (DQS0B/CQ0B, DPCLK5) (io), M11 IO, RUP2, (DQ0B) (io), N8 IO, DIFFIO_B3p, (DQ0B) (io), N9 IO, DIFFIO_B3n, (DQ0B) (io), N10 IO, DIFFIO_B5p, (DQ0B) (io), N11 IO, DIFFIO_B5n, (DQ0B) (io), N12 IO, RDN2, (DM0B) (io)
part C pins: H10 IO, (DQS1R/CQ0R#, DPCLK7) (io), H12 IO, VREFB5N0 (io), J13 IO, DIFFIO_R5n, (DQ0R) (io), K11 IO, DIFFIO_R7p, (DQ0R) (io), K12 IO, DIFFIO_R7n, (DQ0R) (io), K13 IO, DIFFIO_R5p, (DQ0R) (io), L12 IO, DIFFIO_R6p, (DQ0R) (io), L13 IO, DIFFIO_R6n, (DQ0R) (io), M13 IO, RDN3 (io), N13 IO, RUP3 (io)
part D pins: D10 IO, DIFFIO_R2n, DEV_CLRn (io), D11 IO, DIFFIO_R1p (io), D12 IO, DIFFIO_R1n (io), E10 IO, DIFFIO_R2p, (DM0R) (io), E13 IO, VREFB6N0 (io), F9 IO (io), F10 IO, DIFFIO_R3p, (DQ0R) (io), F11 IO, DIFFIO_R3n, (DQ0R) (io), G9 IO, DIFFIO_R4p, (DQS0R/CQ0R, DPCLK8) (io), G10 IO, DIFFIO_R4n, DEV_OE (io)
part E pins: A11 IO, DIFFIO_T1n, (DQ0T) (io), A12 IO, DIFFIO_T1p, (DM0T) (io), A13 IO, DIFFIO_T3n, (DQS0T/CQ0T, DPCLK10) (io), B8 IO, DIFFIO_T2n, (DQ0T) (io), B10 IO, VREFB7N0 (io), B11 IO (io), B13 IO, DIFFIO_T3p, (DQ0T) (io), C8 IO, DIFFIO_T2p, (DQ0T) (io), C11 IO, RUP4, (DQ0T) (io), C12 IO, RDN4, (DQ0T) (io), C13 IO, DIFFIO_T4n, (DQ0T) (io), D13 IO, DIFFIO_T4p, (DQ0T) (io)
part F pins: A6 IO, CLKUSR (io), A7 IO, PLL2_CLKOUTn (io), A8 IO, PLL2_CLKOUTp (io), B6 IO, (DQS1T/CQ0T#, DPCLK13) (io), C6 IO, VREFB8N0 (io)
part G pins: A9 CLK8, DIFFCLK_5n (in), A10 CLK9, DIFFCLK_5p (in), E6 CLK10, DIFFCLK_4n, REFCLK1n (in), E7 CLK11, DIFFCLK_4p, REFCLK1p (in), F12 CLK7, DIFFCLK_3p (in), F13 CLK6, DIFFCLK_3n (in), G13 CLK4, DIFFCLK_2n (in), H13 CLK5, DIFFCLK_2p (in), J6 CLK12, DIFFCLK_7p, REFCLK0p (in), J7 CLK13, DIFFCLK_7n, REFCLK0n (in), M7 CLK14, DIFFCLK_6p (in), N7 CLK15, DIFFCLK_6n (in)
part H pins: C1 GXB_TX1n (out), C2 GXB_TX1p (out), E1 GXB_RX1n (in), E2 GXB_RX1p (in), G1 GXB_TX0n (out), G2 GXB_TX0p (out), J1 GXB_RX0n (in), J2 GXB_RX0p (in)
part I pins: A1 TDO (out), A2 TMS (in), A3 TDI (in), A4 DCLK (io), A5 IO, DATA0 (io), B3 TCK (in), B5 IO, ASDO (io), C4 nCE (in), C5 IO, NCSO (io), D5 nCONFIG (in), J5 CONF_DONE (io), K5 MSEL0 (in), K6 nSTATUS (io), L3 MSEL2 (in), N3 MSEL1 (in)
part J pins: C3 VCCIO9 (power), C7 VCCIO8 (power), C9 VCCIO7 (power), C10 VCCIO7 (power), D7 VCC_CLKIN8A (power), E4 VCCINT (power), E8 VCCINT (power), E11 VCCIO6 (power), F5 VCCINT (power), F7 VCCINT (power), G4 VCCINT (power), G6 VCCINT (power), G8 VCCINT (power), G11 VCCIO6 (power), H5 VCCINT (power), H7 VCCINT (power), H11 VCCIO5 (power), J8 VCCINT (power), J11 VCCIO5 (power), K7 VCC_CLKIN3A (power), L6 VCCIO3 (power), L8 VCCIO4 (power), L10 VCCIO4 (power)
part K pins: D3 VCCD_PLL (power), D4 VCCA (power), D9 VCCA (power), F3 VCCL_GXB (power), G3 VCCH_GXB (power), H3 VCCL_GXB (power), H9 VCCA (power), J3 VCCA_GXB (power), J4 VCCD_PLL (power), J10 VCCD_PLL (power), K4 VCCA (power), M2 VCCA_GXB (power), N1 VCCL_GXB (power)
part L pins: B1 GND (power), B2 GND (power), B4 GND (power), B7 GND (power), B9 GND (power), B12 GND (power), D1 GND (power), D2 GND (power), D6 GND (power), D8 GND (power), E3 GND (power), E5 GND (power), E9 GND (power), E12 GND (power), F1 GND (power), F2 GND (power), F4 GND (power), F6 GND (power), F8 GND (power), G5 GND (power), G7 GND (power), G12 GND (power), H1 GND (power), H2 GND (power), H4 GND (power), H6 GND (power), H8 GND (power), J9 GND (power), J12 GND (power), K1 GND (power), K2 GND (power), K3 GND (power), L2 GND (power), M1 GND (power), M5 GND (power), M8 GND (power), M10 GND (power), M12 GND (power)
part M pins: L1 RREF0, M3 NC, N2 NC
part A text: BANK 3
part B text: BANK 4
part C text: BANK 5
part D text: BANK 6
part E text: BANK 7
part F text: BANK 8

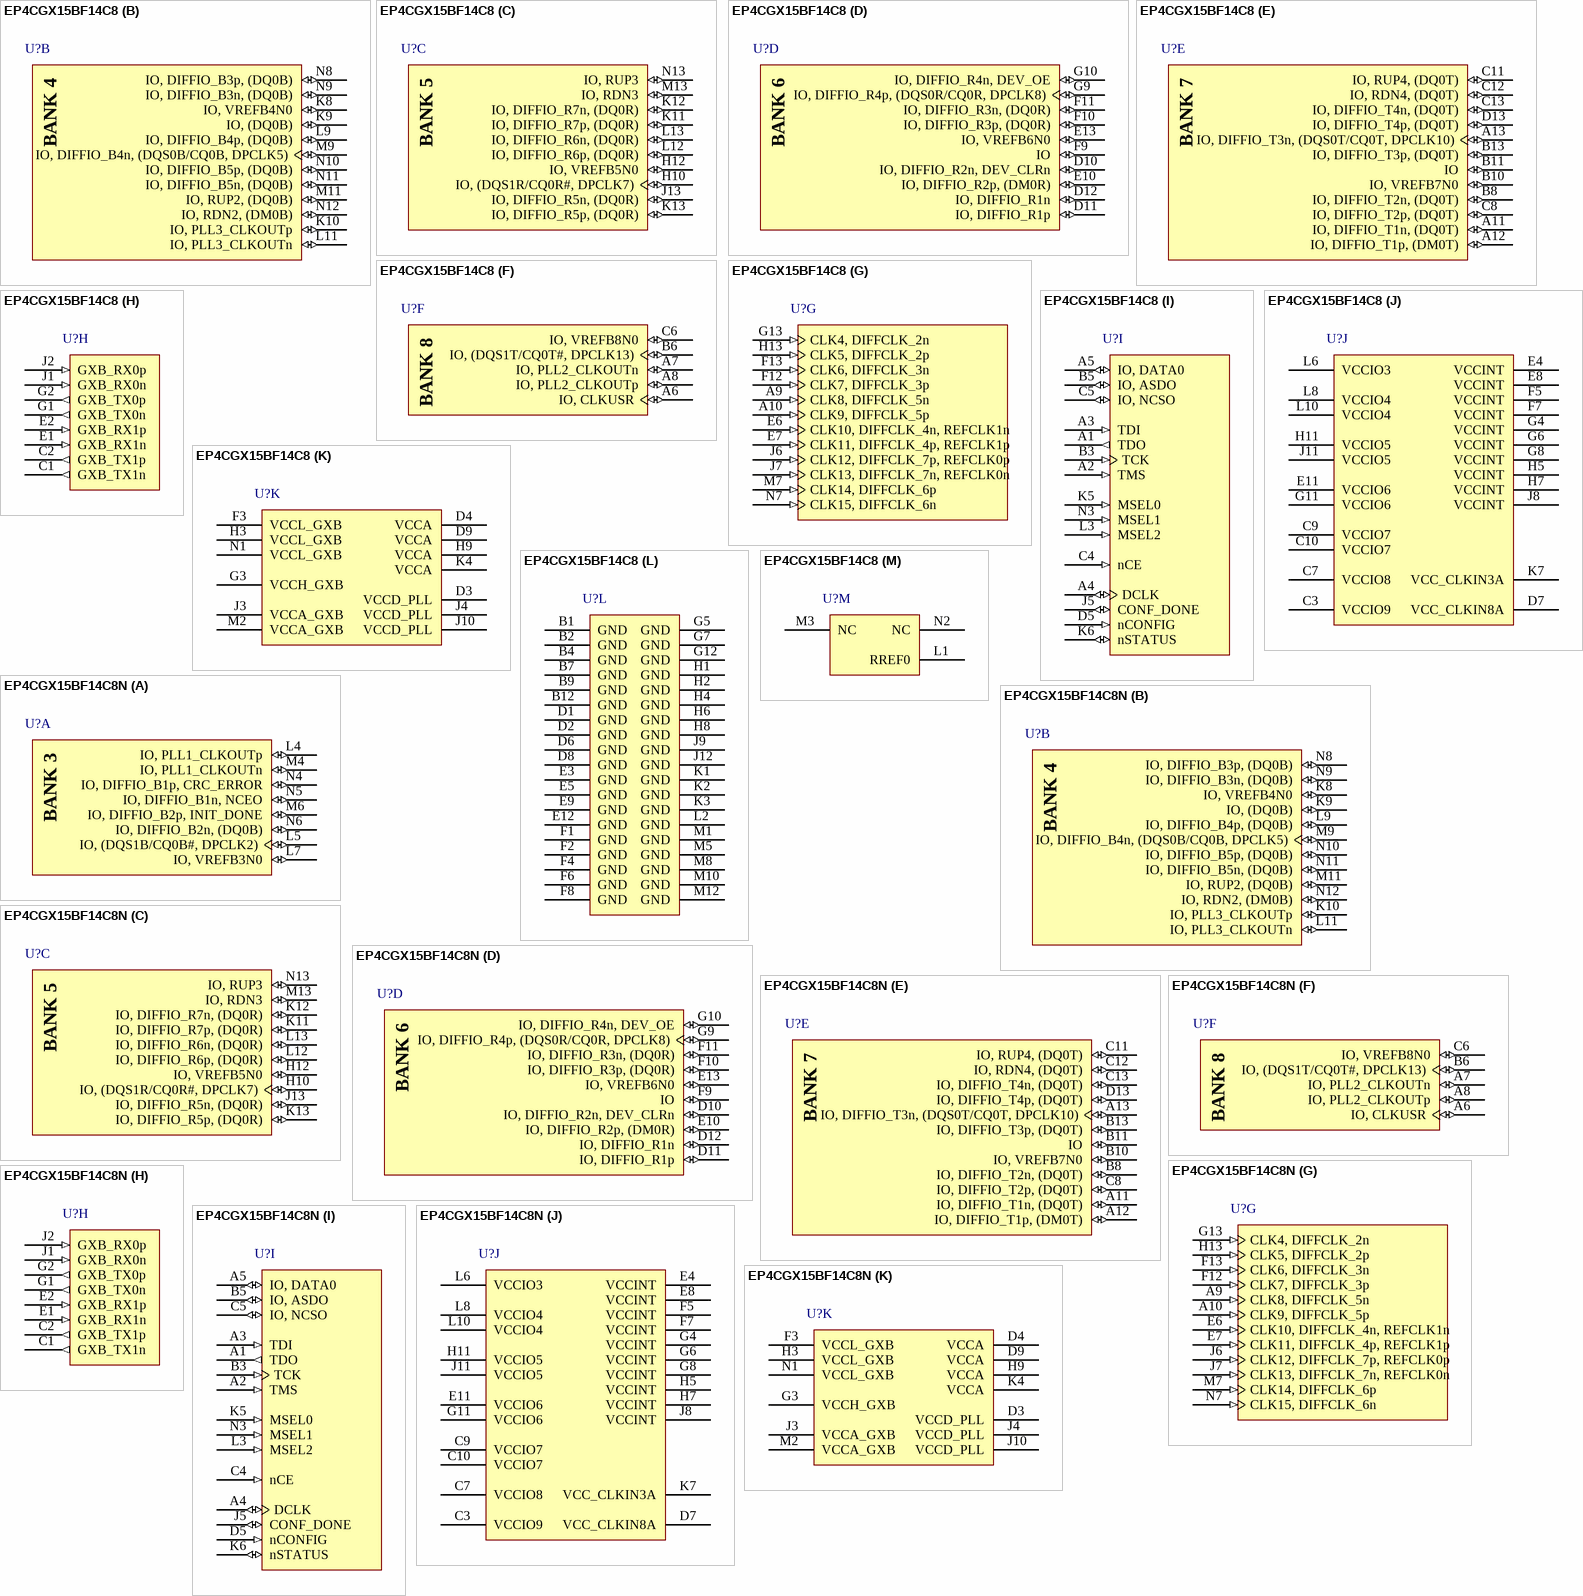
[diagram p3: symbols EP4CGX15BF14C8 to EP4CGX15BF14C8N]

## EP4CGX15BF14C8
designator U?
Cyclone IV Family FPGA, 1.2 V Core, 72 I/O Pins, 3 PLLs, 2 High-Speed Transceivers, 169-Pin FBGA, Speed Grade 8, Commercial Grade; Manufacturer: Altera; Device Group: EP4CGX15; GPIO: 72; Logic Elements (LE) (K): 14.4; NexusDeviceID: EP4CGX15BF14C8; Speed Grade: 8; DatasheetVersion: Rev. 1.8; PackageVersion: Rev. 1.0, 06/2011; PackageReference: FBGA169_A-155; PackageDescription: 169-Pin FineLine Ball-Grid Array (FBGA), Body 14 x 14 mm, Pitch 1 mm; Supplier 1: Digi-Key; Supplier Part Number 1: EP4CGX15BF14C8-ND; Supplier 2: Mouser; Supplier Part Number 2: 989-EP4CGX15BF14C8; Subcategory: Cyclone IV GX; Voltage Supply: 1.2 V Core; Mounting Technology: Surface Mount; Code_JEDEC: MO-192; PartNumber: EP4CGX15BF14C8; ComponentLink1Description: Manufacturer URL; ComponentLink1URL: http://www.altera.com/; ComponentLink2Description: Datasheet; ComponentLink2URL: http://www.altera.com/literature/hb/cyclone-iv/cyiv-53001.pdf; ComponentLink3Description: Package Specification; ComponentLink3URL: http://www.altera.com/devicepackaging/04R00225-02.pdf; ComponentLink4Description: Device Handbook URL; ComponentLink4URL: http://www.altera.com/literature/hb/cyclone-iv/cyclone4-handbook.pdf; ComponentLink5Description: Device Overview URL; ComponentLink5URL: http://www.altera.com/literature/hb/cyclone-iv/cyiv-51001.pdf; ComponentLink6Description: Device Pin-Out URL; ComponentLink6URL: http://www.altera.com/literature/dp/cyclone-iv/EP4CGX15.xls; ComponentLink7Description: Product URL; ComponentLink7URL: http://www.buyaltera.com/scripts/partsearch.dll?Detail&name=544-1475-ND&GSA_pos=1&WT.oss_r=1&WT.oss=EP4CGX15BF14C8N
footprint ALTR-FBGA169_A-155 (BGA, 169-Balls, Body 14x14mm, Pitch 1mm)
part A pins: L4 IO, PLL1_CLKOUTp (io), L5 IO, (DQS1B/CQ0B#, DPCLK2) (io), L7 IO, VREFB3N0 (io), M4 IO, PLL1_CLKOUTn (io), M6 IO, DIFFIO_B2p, INIT_DONE (io), N4 IO, DIFFIO_B1p, CRC_ERROR (io), N5 IO, DIFFIO_B1n, NCEO (io), N6 IO, DIFFIO_B2n, (DQ0B) (io)
part B pins: K8 IO, VREFB4N0 (io), K9 IO, (DQ0B) (io), K10 IO, PLL3_CLKOUTp (io), L9 IO, DIFFIO_B4p, (DQ0B) (io), L11 IO, PLL3_CLKOUTn (io), M9 IO, DIFFIO_B4n, (DQS0B/CQ0B, DPCLK5) (io), M11 IO, RUP2, (DQ0B) (io), N8 IO, DIFFIO_B3p, (DQ0B) (io), N9 IO, DIFFIO_B3n, (DQ0B) (io), N10 IO, DIFFIO_B5p, (DQ0B) (io), N11 IO, DIFFIO_B5n, (DQ0B) (io), N12 IO, RDN2, (DM0B) (io)
part C pins: H10 IO, (DQS1R/CQ0R#, DPCLK7) (io), H12 IO, VREFB5N0 (io), J13 IO, DIFFIO_R5n, (DQ0R) (io), K11 IO, DIFFIO_R7p, (DQ0R) (io), K12 IO, DIFFIO_R7n, (DQ0R) (io), K13 IO, DIFFIO_R5p, (DQ0R) (io), L12 IO, DIFFIO_R6p, (DQ0R) (io), L13 IO, DIFFIO_R6n, (DQ0R) (io), M13 IO, RDN3 (io), N13 IO, RUP3 (io)
part D pins: D10 IO, DIFFIO_R2n, DEV_CLRn (io), D11 IO, DIFFIO_R1p (io), D12 IO, DIFFIO_R1n (io), E10 IO, DIFFIO_R2p, (DM0R) (io), E13 IO, VREFB6N0 (io), F9 IO (io), F10 IO, DIFFIO_R3p, (DQ0R) (io), F11 IO, DIFFIO_R3n, (DQ0R) (io), G9 IO, DIFFIO_R4p, (DQS0R/CQ0R, DPCLK8) (io), G10 IO, DIFFIO_R4n, DEV_OE (io)
part E pins: A11 IO, DIFFIO_T1n, (DQ0T) (io), A12 IO, DIFFIO_T1p, (DM0T) (io), A13 IO, DIFFIO_T3n, (DQS0T/CQ0T, DPCLK10) (io), B8 IO, DIFFIO_T2n, (DQ0T) (io), B10 IO, VREFB7N0 (io), B11 IO (io), B13 IO, DIFFIO_T3p, (DQ0T) (io), C8 IO, DIFFIO_T2p, (DQ0T) (io), C11 IO, RUP4, (DQ0T) (io), C12 IO, RDN4, (DQ0T) (io), C13 IO, DIFFIO_T4n, (DQ0T) (io), D13 IO, DIFFIO_T4p, (DQ0T) (io)
part F pins: A6 IO, CLKUSR (io), A7 IO, PLL2_CLKOUTn (io), A8 IO, PLL2_CLKOUTp (io), B6 IO, (DQS1T/CQ0T#, DPCLK13) (io), C6 IO, VREFB8N0 (io)
part G pins: A9 CLK8, DIFFCLK_5n (in), A10 CLK9, DIFFCLK_5p (in), E6 CLK10, DIFFCLK_4n, REFCLK1n (in), E7 CLK11, DIFFCLK_4p, REFCLK1p (in), F12 CLK7, DIFFCLK_3p (in), F13 CLK6, DIFFCLK_3n (in), G13 CLK4, DIFFCLK_2n (in), H13 CLK5, DIFFCLK_2p (in), J6 CLK12, DIFFCLK_7p, REFCLK0p (in), J7 CLK13, DIFFCLK_7n, REFCLK0n (in), M7 CLK14, DIFFCLK_6p (in), N7 CLK15, DIFFCLK_6n (in)
part H pins: C1 GXB_TX1n (out), C2 GXB_TX1p (out), E1 GXB_RX1n (in), E2 GXB_RX1p (in), G1 GXB_TX0n (out), G2 GXB_TX0p (out), J1 GXB_RX0n (in), J2 GXB_RX0p (in)
part I pins: A1 TDO (out), A2 TMS (in), A3 TDI (in), A4 DCLK (io), A5 IO, DATA0 (io), B3 TCK (in), B5 IO, ASDO (io), C4 nCE (in), C5 IO, NCSO (io), D5 nCONFIG (in), J5 CONF_DONE (io), K5 MSEL0 (in), K6 nSTATUS (io), L3 MSEL2 (in), N3 MSEL1 (in)
part J pins: C3 VCCIO9 (power), C7 VCCIO8 (power), C9 VCCIO7 (power), C10 VCCIO7 (power), D7 VCC_CLKIN8A (power), E4 VCCINT (power), E8 VCCINT (power), E11 VCCIO6 (power), F5 VCCINT (power), F7 VCCINT (power), G4 VCCINT (power), G6 VCCINT (power), G8 VCCINT (power), G11 VCCIO6 (power), H5 VCCINT (power), H7 VCCINT (power), H11 VCCIO5 (power), J8 VCCINT (power), J11 VCCIO5 (power), K7 VCC_CLKIN3A (power), L6 VCCIO3 (power), L8 VCCIO4 (power), L10 VCCIO4 (power)
part K pins: D3 VCCD_PLL (power), D4 VCCA (power), D9 VCCA (power), F3 VCCL_GXB (power), G3 VCCH_GXB (power), H3 VCCL_GXB (power), H9 VCCA (power), J3 VCCA_GXB (power), J4 VCCD_PLL (power), J10 VCCD_PLL (power), K4 VCCA (power), M2 VCCA_GXB (power), N1 VCCL_GXB (power)
part L pins: B1 GND (power), B2 GND (power), B4 GND (power), B7 GND (power), B9 GND (power), B12 GND (power), D1 GND (power), D2 GND (power), D6 GND (power), D8 GND (power), E3 GND (power), E5 GND (power), E9 GND (power), E12 GND (power), F1 GND (power), F2 GND (power), F4 GND (power), F6 GND (power), F8 GND (power), G5 GND (power), G7 GND (power), G12 GND (power), H1 GND (power), H2 GND (power), H4 GND (power), H6 GND (power), H8 GND (power), J9 GND (power), J12 GND (power), K1 GND (power), K2 GND (power), K3 GND (power), L2 GND (power), M1 GND (power), M5 GND (power), M8 GND (power), M10 GND (power), M12 GND (power)
part M pins: L1 RREF0, M3 NC, N2 NC
part A text: BANK 3
part B text: BANK 4
part C text: BANK 5
part D text: BANK 6
part E text: BANK 7
part F text: BANK 8

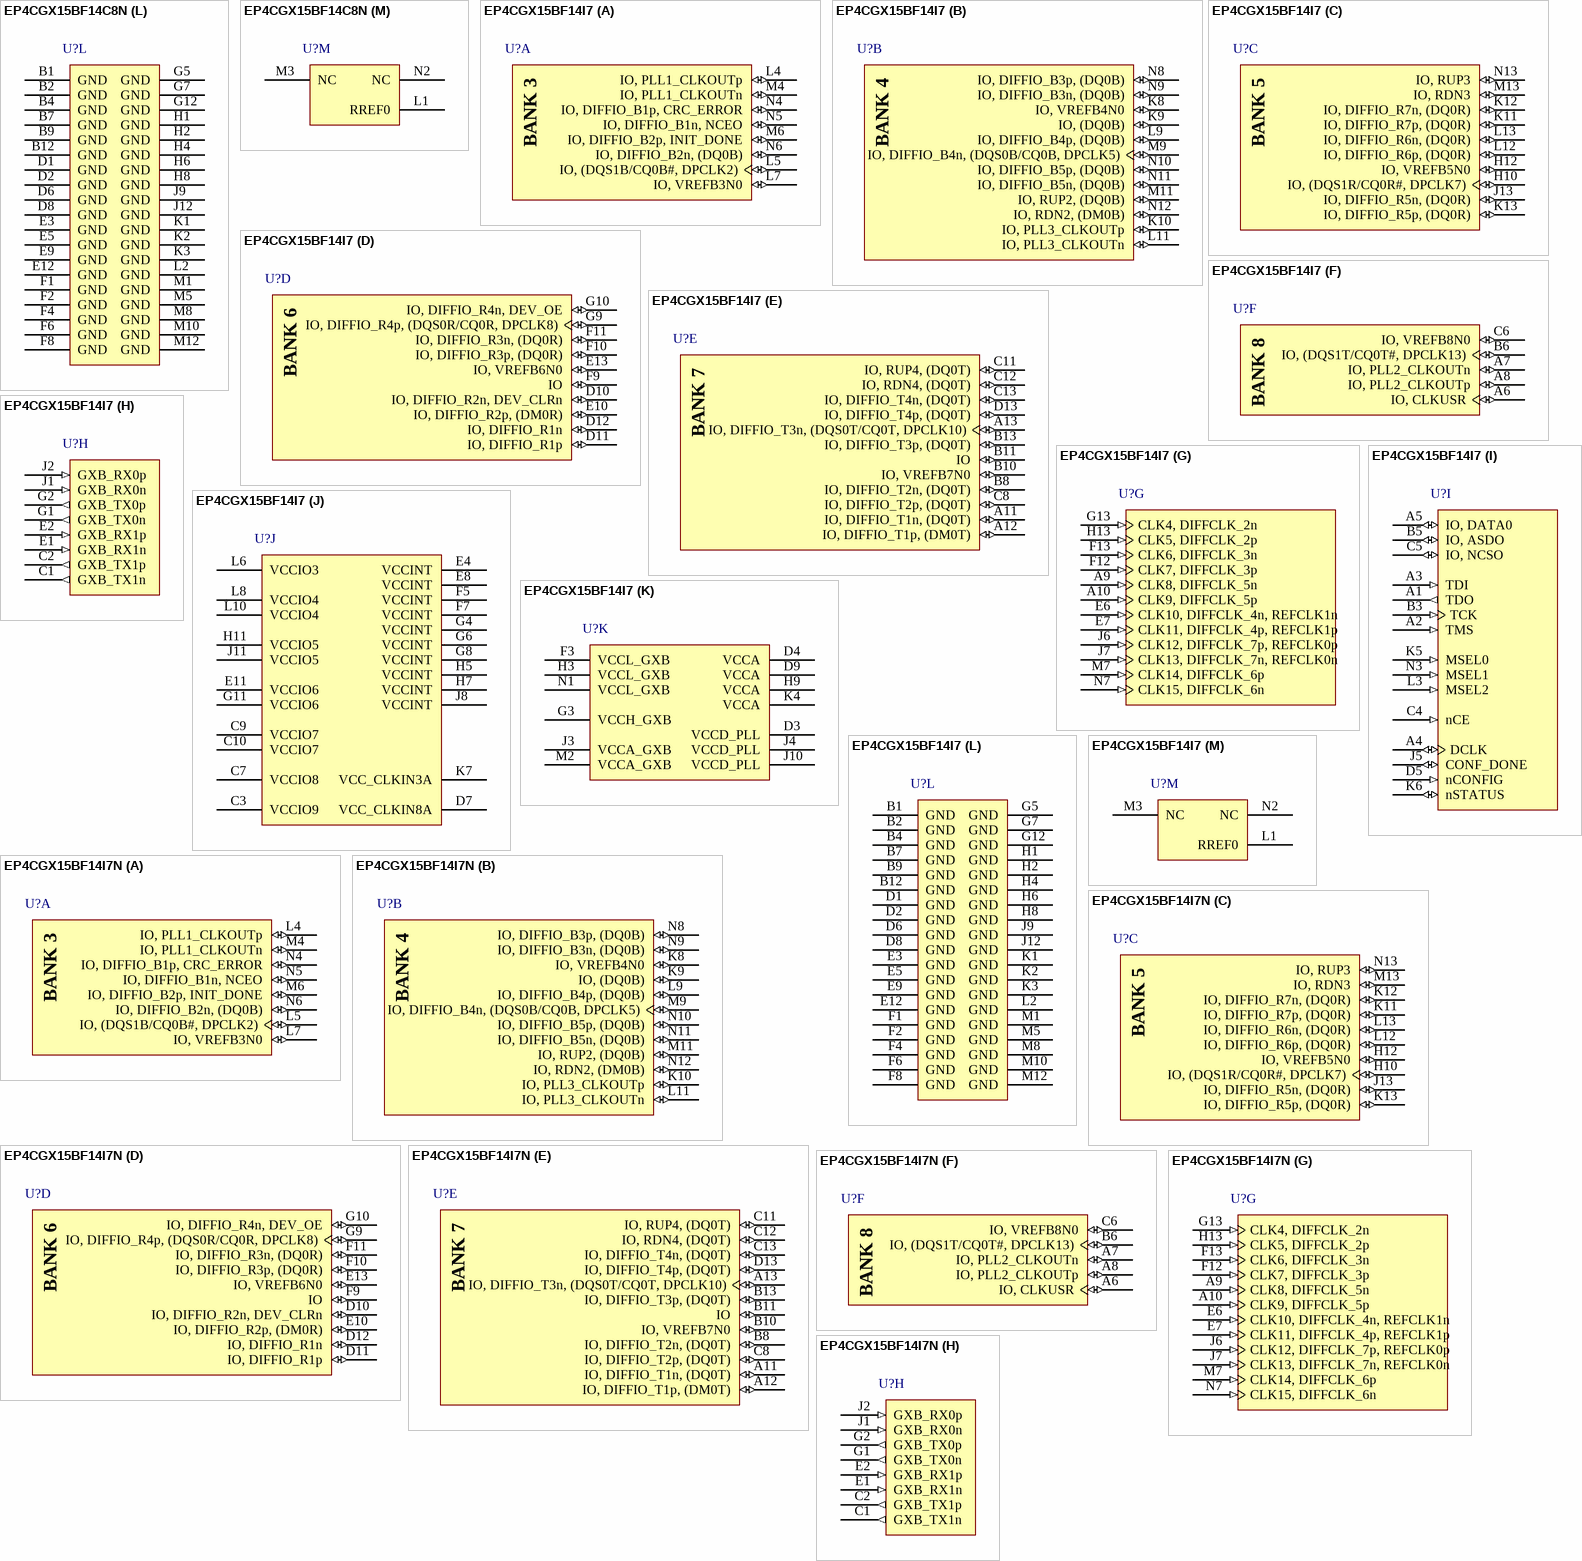
[diagram p4: symbols EP4CGX15BF14C8N to EP4CGX15BF14I7N]

## EP4CGX15BF14C8N
designator U?
Cyclone IV Family FPGA, 1.2 V Core, 72 I/O Pins, 3 PLLs, 2 High-Speed Transceivers, 169-Pin FBGA, Speed Grade 8, Commercial Grade, Pb-Free; Manufacturer: Altera; Device Group: EP4CGX15; GPIO: 72; Logic Elements (LE) (K): 14.4; NexusDeviceID: EP4CGX15BF14C8N; Pb-Free: TRUE; Speed Grade: 8; DatasheetVersion: Rev. 1.8; PackageVersion: Rev. 1.0, 06/2011; PackageReference: FBGA169_A-155; PackageDescription: 169-Pin FineLine Ball-Grid Array (FBGA), Body 14 x 14 mm, Pitch 1 mm; Supplier 1: Digi-Key; Supplier Part Number 1: 544-1475-ND; Supplier 2: Farnell; Supplier Part Number 2: 1797527; Supplier 3: Mouser; Supplier Part Number 3: 989-EP4CGX15BF14C8N; RoHS: RoHS Compliant; Subcategory: Cyclone IV GX; Voltage Supply: 1.2 V Core; Mounting Technology: Surface Mount; Code_JEDEC: MO-192; PartNumber: EP4CGX15BF14C8N; ComponentLink1Description: Manufacturer URL; ComponentLink1URL: http://www.altera.com/; ComponentLink2Description: Datasheet; ComponentLink2URL: http://www.altera.com/literature/hb/cyclone-iv/cyiv-53001.pdf; ComponentLink3Description: Package Specification; ComponentLink3URL: http://www.altera.com/devicepackaging/04R00225-02.pdf; ComponentLink4Description: Device Handbook URL; ComponentLink4URL: http://www.altera.com/literature/hb/cyclone-iv/cyclone4-handbook.pdf; ComponentLink5Description: Device Overview URL; ComponentLink5URL: http://www.altera.com/literature/hb/cyclone-iv/cyiv-51001.pdf; ComponentLink6Description: Device Pin-Out URL; ComponentLink6URL: http://www.altera.com/literature/dp/cyclone-iv/EP4CGX15.xls; ComponentLink7Description: Product URL; ComponentLink7URL: http://www.buyaltera.com/scripts/partsearch.dll?Detail&name=544-1475-ND&GSA_pos=1&WT.oss_r=1&WT.oss=EP4CGX15BF14C8N
footprint ALTR-FBGA169_A-155 (BGA, 169-Balls, Body 14x14mm, Pitch 1mm)
part A pins: L4 IO, PLL1_CLKOUTp (io), L5 IO, (DQS1B/CQ0B#, DPCLK2) (io), L7 IO, VREFB3N0 (io), M4 IO, PLL1_CLKOUTn (io), M6 IO, DIFFIO_B2p, INIT_DONE (io), N4 IO, DIFFIO_B1p, CRC_ERROR (io), N5 IO, DIFFIO_B1n, NCEO (io), N6 IO, DIFFIO_B2n, (DQ0B) (io)
part B pins: K8 IO, VREFB4N0 (io), K9 IO, (DQ0B) (io), K10 IO, PLL3_CLKOUTp (io), L9 IO, DIFFIO_B4p, (DQ0B) (io), L11 IO, PLL3_CLKOUTn (io), M9 IO, DIFFIO_B4n, (DQS0B/CQ0B, DPCLK5) (io), M11 IO, RUP2, (DQ0B) (io), N8 IO, DIFFIO_B3p, (DQ0B) (io), N9 IO, DIFFIO_B3n, (DQ0B) (io), N10 IO, DIFFIO_B5p, (DQ0B) (io), N11 IO, DIFFIO_B5n, (DQ0B) (io), N12 IO, RDN2, (DM0B) (io)
part C pins: H10 IO, (DQS1R/CQ0R#, DPCLK7) (io), H12 IO, VREFB5N0 (io), J13 IO, DIFFIO_R5n, (DQ0R) (io), K11 IO, DIFFIO_R7p, (DQ0R) (io), K12 IO, DIFFIO_R7n, (DQ0R) (io), K13 IO, DIFFIO_R5p, (DQ0R) (io), L12 IO, DIFFIO_R6p, (DQ0R) (io), L13 IO, DIFFIO_R6n, (DQ0R) (io), M13 IO, RDN3 (io), N13 IO, RUP3 (io)
part D pins: D10 IO, DIFFIO_R2n, DEV_CLRn (io), D11 IO, DIFFIO_R1p (io), D12 IO, DIFFIO_R1n (io), E10 IO, DIFFIO_R2p, (DM0R) (io), E13 IO, VREFB6N0 (io), F9 IO (io), F10 IO, DIFFIO_R3p, (DQ0R) (io), F11 IO, DIFFIO_R3n, (DQ0R) (io), G9 IO, DIFFIO_R4p, (DQS0R/CQ0R, DPCLK8) (io), G10 IO, DIFFIO_R4n, DEV_OE (io)
part E pins: A11 IO, DIFFIO_T1n, (DQ0T) (io), A12 IO, DIFFIO_T1p, (DM0T) (io), A13 IO, DIFFIO_T3n, (DQS0T/CQ0T, DPCLK10) (io), B8 IO, DIFFIO_T2n, (DQ0T) (io), B10 IO, VREFB7N0 (io), B11 IO (io), B13 IO, DIFFIO_T3p, (DQ0T) (io), C8 IO, DIFFIO_T2p, (DQ0T) (io), C11 IO, RUP4, (DQ0T) (io), C12 IO, RDN4, (DQ0T) (io), C13 IO, DIFFIO_T4n, (DQ0T) (io), D13 IO, DIFFIO_T4p, (DQ0T) (io)
part F pins: A6 IO, CLKUSR (io), A7 IO, PLL2_CLKOUTn (io), A8 IO, PLL2_CLKOUTp (io), B6 IO, (DQS1T/CQ0T#, DPCLK13) (io), C6 IO, VREFB8N0 (io)
part G pins: A9 CLK8, DIFFCLK_5n (in), A10 CLK9, DIFFCLK_5p (in), E6 CLK10, DIFFCLK_4n, REFCLK1n (in), E7 CLK11, DIFFCLK_4p, REFCLK1p (in), F12 CLK7, DIFFCLK_3p (in), F13 CLK6, DIFFCLK_3n (in), G13 CLK4, DIFFCLK_2n (in), H13 CLK5, DIFFCLK_2p (in), J6 CLK12, DIFFCLK_7p, REFCLK0p (in), J7 CLK13, DIFFCLK_7n, REFCLK0n (in), M7 CLK14, DIFFCLK_6p (in), N7 CLK15, DIFFCLK_6n (in)
part H pins: C1 GXB_TX1n (out), C2 GXB_TX1p (out), E1 GXB_RX1n (in), E2 GXB_RX1p (in), G1 GXB_TX0n (out), G2 GXB_TX0p (out), J1 GXB_RX0n (in), J2 GXB_RX0p (in)
part I pins: A1 TDO (out), A2 TMS (in), A3 TDI (in), A4 DCLK (io), A5 IO, DATA0 (io), B3 TCK (in), B5 IO, ASDO (io), C4 nCE (in), C5 IO, NCSO (io), D5 nCONFIG (in), J5 CONF_DONE (io), K5 MSEL0 (in), K6 nSTATUS (io), L3 MSEL2 (in), N3 MSEL1 (in)
part J pins: C3 VCCIO9 (power), C7 VCCIO8 (power), C9 VCCIO7 (power), C10 VCCIO7 (power), D7 VCC_CLKIN8A (power), E4 VCCINT (power), E8 VCCINT (power), E11 VCCIO6 (power), F5 VCCINT (power), F7 VCCINT (power), G4 VCCINT (power), G6 VCCINT (power), G8 VCCINT (power), G11 VCCIO6 (power), H5 VCCINT (power), H7 VCCINT (power), H11 VCCIO5 (power), J8 VCCINT (power), J11 VCCIO5 (power), K7 VCC_CLKIN3A (power), L6 VCCIO3 (power), L8 VCCIO4 (power), L10 VCCIO4 (power)
part K pins: D3 VCCD_PLL (power), D4 VCCA (power), D9 VCCA (power), F3 VCCL_GXB (power), G3 VCCH_GXB (power), H3 VCCL_GXB (power), H9 VCCA (power), J3 VCCA_GXB (power), J4 VCCD_PLL (power), J10 VCCD_PLL (power), K4 VCCA (power), M2 VCCA_GXB (power), N1 VCCL_GXB (power)
part L pins: B1 GND (power), B2 GND (power), B4 GND (power), B7 GND (power), B9 GND (power), B12 GND (power), D1 GND (power), D2 GND (power), D6 GND (power), D8 GND (power), E3 GND (power), E5 GND (power), E9 GND (power), E12 GND (power), F1 GND (power), F2 GND (power), F4 GND (power), F6 GND (power), F8 GND (power), G5 GND (power), G7 GND (power), G12 GND (power), H1 GND (power), H2 GND (power), H4 GND (power), H6 GND (power), H8 GND (power), J9 GND (power), J12 GND (power), K1 GND (power), K2 GND (power), K3 GND (power), L2 GND (power), M1 GND (power), M5 GND (power), M8 GND (power), M10 GND (power), M12 GND (power)
part M pins: L1 RREF0, M3 NC, N2 NC
part A text: BANK 3
part B text: BANK 4
part C text: BANK 5
part D text: BANK 6
part E text: BANK 7
part F text: BANK 8

## EP4CGX15BF14I7
designator U?
Cyclone IV Family FPGA, 1.2 V Core, 72 I/O Pins, 3 PLLs, 2 High-Speed Transceivers, 169-Pin FBGA, Speed Grade 7, Industrial Grade; Manufacturer: Altera; Device Group: EP4CGX15; GPIO: 72; Logic Elements (LE) (K): 14.4; NexusDeviceID: EP4CGX15BF14I7; Speed Grade: 7; DatasheetVersion: Rev. 1.8; PackageVersion: Rev. 1.0, 06/2011; PackageReference: FBGA169_A-155; PackageDescription: 169-Pin FineLine Ball-Grid Array (FBGA), Body 14 x 14 mm, Pitch 1 mm; Supplier 1: Digi-Key; Supplier Part Number 1: EP4CGX15BF14I7-ND; Supplier 2: Mouser; Supplier Part Number 2: 989-EP4CGX15BF14I7; Subcategory: Cyclone IV GX; Voltage Supply: 1.2 V Core; Mounting Technology: Surface Mount; Code_JEDEC: MO-192; PartNumber: EP4CGX15BF14I7; ComponentLink1Description: Manufacturer URL; ComponentLink1URL: http://www.altera.com/; ComponentLink2Description: Datasheet; ComponentLink2URL: http://www.altera.com/literature/hb/cyclone-iv/cyiv-53001.pdf; ComponentLink3Description: Package Specification; ComponentLink3URL: http://www.altera.com/devicepackaging/04R00225-02.pdf; ComponentLink4Description: Device Handbook URL; ComponentLink4URL: http://www.altera.com/literature/hb/cyclone-iv/cyclone4-handbook.pdf; ComponentLink5Description: Device Overview URL; ComponentLink5URL: http://www.altera.com/literature/hb/cyclone-iv/cyiv-51001.pdf; ComponentLink6Description: Device Pin-Out URL; ComponentLink6URL: http://www.altera.com/literature/dp/cyclone-iv/EP4CGX15.xls; ComponentLink7Description: Product URL; ComponentLink7URL: http://www.buyaltera.com/scripts/partsearch.dll?Detail&name=EP4CGX15BF14I7N-ND
footprint ALTR-FBGA169_A-155 (BGA, 169-Balls, Body 14x14mm, Pitch 1mm)
part A pins: L4 IO, PLL1_CLKOUTp (io), L5 IO, (DQS1B/CQ0B#, DPCLK2) (io), L7 IO, VREFB3N0 (io), M4 IO, PLL1_CLKOUTn (io), M6 IO, DIFFIO_B2p, INIT_DONE (io), N4 IO, DIFFIO_B1p, CRC_ERROR (io), N5 IO, DIFFIO_B1n, NCEO (io), N6 IO, DIFFIO_B2n, (DQ0B) (io)
part B pins: K8 IO, VREFB4N0 (io), K9 IO, (DQ0B) (io), K10 IO, PLL3_CLKOUTp (io), L9 IO, DIFFIO_B4p, (DQ0B) (io), L11 IO, PLL3_CLKOUTn (io), M9 IO, DIFFIO_B4n, (DQS0B/CQ0B, DPCLK5) (io), M11 IO, RUP2, (DQ0B) (io), N8 IO, DIFFIO_B3p, (DQ0B) (io), N9 IO, DIFFIO_B3n, (DQ0B) (io), N10 IO, DIFFIO_B5p, (DQ0B) (io), N11 IO, DIFFIO_B5n, (DQ0B) (io), N12 IO, RDN2, (DM0B) (io)
part C pins: H10 IO, (DQS1R/CQ0R#, DPCLK7) (io), H12 IO, VREFB5N0 (io), J13 IO, DIFFIO_R5n, (DQ0R) (io), K11 IO, DIFFIO_R7p, (DQ0R) (io), K12 IO, DIFFIO_R7n, (DQ0R) (io), K13 IO, DIFFIO_R5p, (DQ0R) (io), L12 IO, DIFFIO_R6p, (DQ0R) (io), L13 IO, DIFFIO_R6n, (DQ0R) (io), M13 IO, RDN3 (io), N13 IO, RUP3 (io)
part D pins: D10 IO, DIFFIO_R2n, DEV_CLRn (io), D11 IO, DIFFIO_R1p (io), D12 IO, DIFFIO_R1n (io), E10 IO, DIFFIO_R2p, (DM0R) (io), E13 IO, VREFB6N0 (io), F9 IO (io), F10 IO, DIFFIO_R3p, (DQ0R) (io), F11 IO, DIFFIO_R3n, (DQ0R) (io), G9 IO, DIFFIO_R4p, (DQS0R/CQ0R, DPCLK8) (io), G10 IO, DIFFIO_R4n, DEV_OE (io)
part E pins: A11 IO, DIFFIO_T1n, (DQ0T) (io), A12 IO, DIFFIO_T1p, (DM0T) (io), A13 IO, DIFFIO_T3n, (DQS0T/CQ0T, DPCLK10) (io), B8 IO, DIFFIO_T2n, (DQ0T) (io), B10 IO, VREFB7N0 (io), B11 IO (io), B13 IO, DIFFIO_T3p, (DQ0T) (io), C8 IO, DIFFIO_T2p, (DQ0T) (io), C11 IO, RUP4, (DQ0T) (io), C12 IO, RDN4, (DQ0T) (io), C13 IO, DIFFIO_T4n, (DQ0T) (io), D13 IO, DIFFIO_T4p, (DQ0T) (io)
part F pins: A6 IO, CLKUSR (io), A7 IO, PLL2_CLKOUTn (io), A8 IO, PLL2_CLKOUTp (io), B6 IO, (DQS1T/CQ0T#, DPCLK13) (io), C6 IO, VREFB8N0 (io)
part G pins: A9 CLK8, DIFFCLK_5n (in), A10 CLK9, DIFFCLK_5p (in), E6 CLK10, DIFFCLK_4n, REFCLK1n (in), E7 CLK11, DIFFCLK_4p, REFCLK1p (in), F12 CLK7, DIFFCLK_3p (in), F13 CLK6, DIFFCLK_3n (in), G13 CLK4, DIFFCLK_2n (in), H13 CLK5, DIFFCLK_2p (in), J6 CLK12, DIFFCLK_7p, REFCLK0p (in), J7 CLK13, DIFFCLK_7n, REFCLK0n (in), M7 CLK14, DIFFCLK_6p (in), N7 CLK15, DIFFCLK_6n (in)
part H pins: C1 GXB_TX1n (out), C2 GXB_TX1p (out), E1 GXB_RX1n (in), E2 GXB_RX1p (in), G1 GXB_TX0n (out), G2 GXB_TX0p (out), J1 GXB_RX0n (in), J2 GXB_RX0p (in)
part I pins: A1 TDO (out), A2 TMS (in), A3 TDI (in), A4 DCLK (io), A5 IO, DATA0 (io), B3 TCK (in), B5 IO, ASDO (io), C4 nCE (in), C5 IO, NCSO (io), D5 nCONFIG (in), J5 CONF_DONE (io), K5 MSEL0 (in), K6 nSTATUS (io), L3 MSEL2 (in), N3 MSEL1 (in)
part J pins: C3 VCCIO9 (power), C7 VCCIO8 (power), C9 VCCIO7 (power), C10 VCCIO7 (power), D7 VCC_CLKIN8A (power), E4 VCCINT (power), E8 VCCINT (power), E11 VCCIO6 (power), F5 VCCINT (power), F7 VCCINT (power), G4 VCCINT (power), G6 VCCINT (power), G8 VCCINT (power), G11 VCCIO6 (power), H5 VCCINT (power), H7 VCCINT (power), H11 VCCIO5 (power), J8 VCCINT (power), J11 VCCIO5 (power), K7 VCC_CLKIN3A (power), L6 VCCIO3 (power), L8 VCCIO4 (power), L10 VCCIO4 (power)
part K pins: D3 VCCD_PLL (power), D4 VCCA (power), D9 VCCA (power), F3 VCCL_GXB (power), G3 VCCH_GXB (power), H3 VCCL_GXB (power), H9 VCCA (power), J3 VCCA_GXB (power), J4 VCCD_PLL (power), J10 VCCD_PLL (power), K4 VCCA (power), M2 VCCA_GXB (power), N1 VCCL_GXB (power)
part L pins: B1 GND (power), B2 GND (power), B4 GND (power), B7 GND (power), B9 GND (power), B12 GND (power), D1 GND (power), D2 GND (power), D6 GND (power), D8 GND (power), E3 GND (power), E5 GND (power), E9 GND (power), E12 GND (power), F1 GND (power), F2 GND (power), F4 GND (power), F6 GND (power), F8 GND (power), G5 GND (power), G7 GND (power), G12 GND (power), H1 GND (power), H2 GND (power), H4 GND (power), H6 GND (power), H8 GND (power), J9 GND (power), J12 GND (power), K1 GND (power), K2 GND (power), K3 GND (power), L2 GND (power), M1 GND (power), M5 GND (power), M8 GND (power), M10 GND (power), M12 GND (power)
part M pins: L1 RREF0, M3 NC, N2 NC
part A text: BANK 3
part B text: BANK 4
part C text: BANK 5
part D text: BANK 6
part E text: BANK 7
part F text: BANK 8

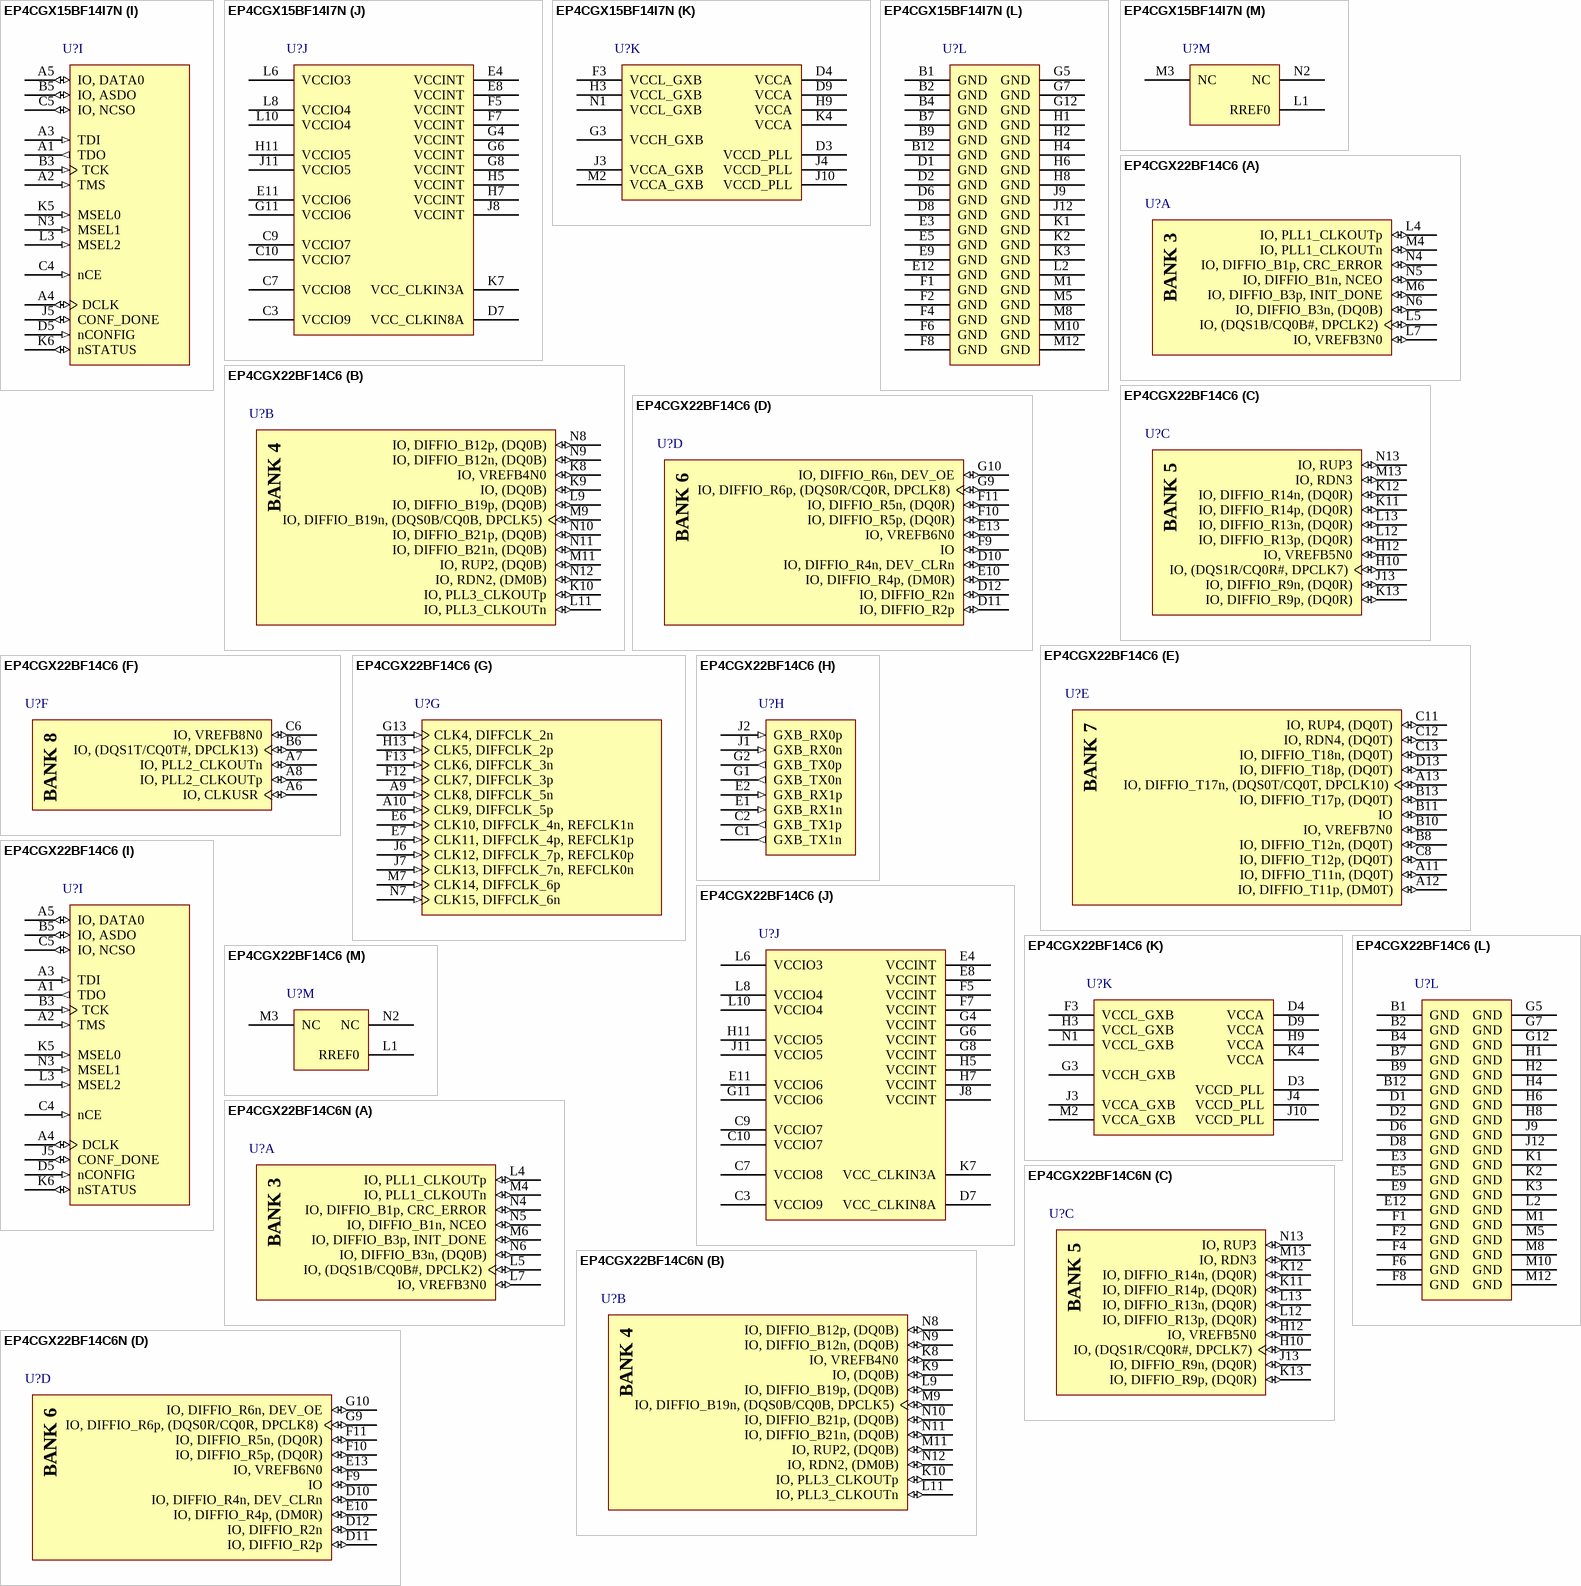
[diagram p5: symbols EP4CGX15BF14I7N to EP4CGX22BF14C6N]